# Altium integrated library ST Microcontroller 8-Bit.IntLib: 1326 symbols (part 2 of 45)
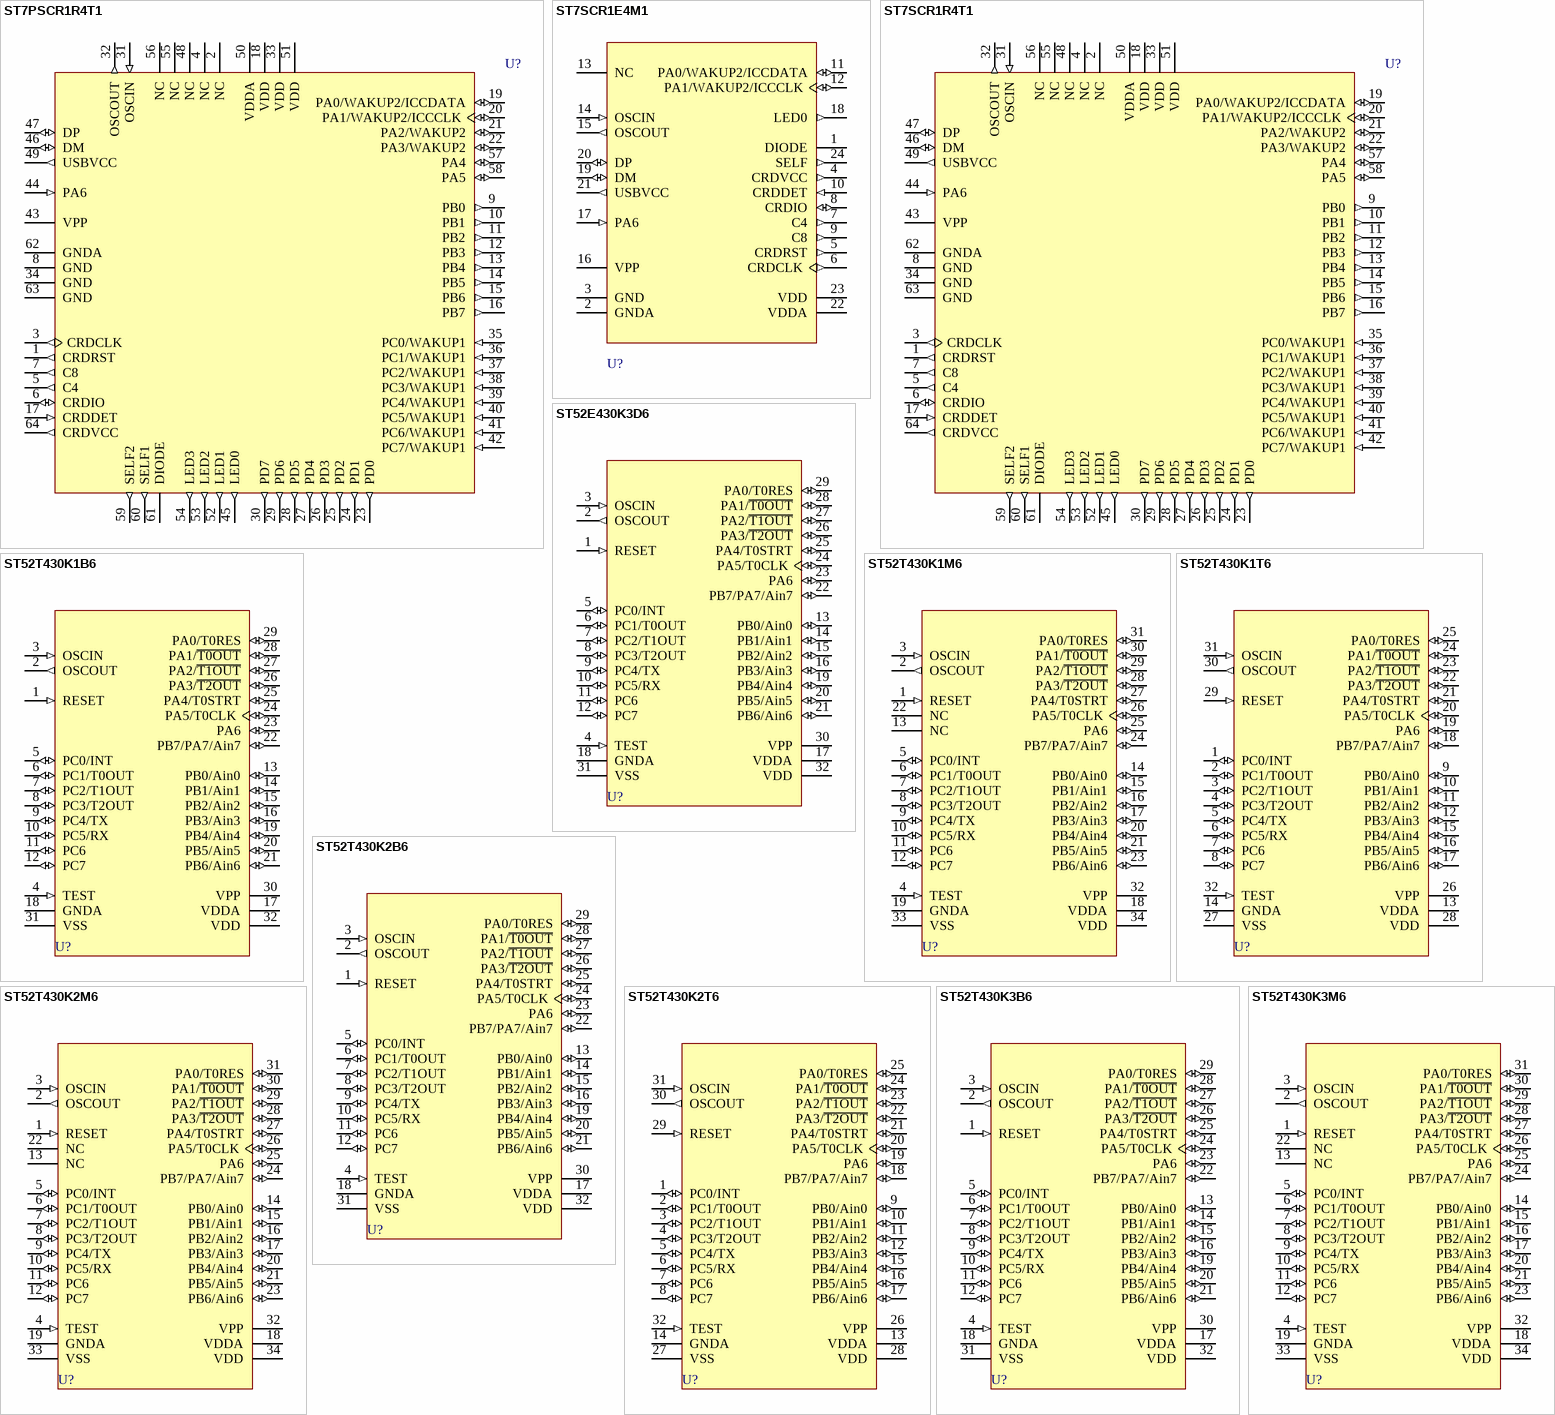
[diagram p168: symbols ST7PSCR1R4T1 to ST52T430K3M6]

## ST52T430K2T6
designator U?
8-Bit OTP Intelligent Controller Unit (ICU) with Three Timer/PWM, ADC and SCI, 32-Pin TQFP; Published: 26-May-2004; LatestRevisionDate: 13-Apr-2006; LatestRevisionNote: IPC-7351 Footprint Added.; DatasheetVersion: rev1.9, May-2003; PackageVersion: Oct-1997; PackageReference: TQFP32; Publisher: Altium Limited; PackageDescription: 32-Pin Thin Quad Flat Pack 0.8 mm Pitch; ComponentLink1Description: Manufacturer Link; ComponentLink1URL: http://www.st.com/
footprint TQFP32_N (Thin QFP, 32-Leads, Body 7x7mm, Pitch 0.8mm, IPC Medium Density)
footprint TQFP32_L (Thin QFP, 32-Leads, Body 7x7mm, Pitch 0.8mm, IPC High Density)
footprint TQFP32_M (Thin QFP, 32-Leads, Body 7x7mm, Pitch 0.8mm, IPC Low Density)
3D model ST52T430-TQFP32 (32-Pin Thin Quad Flat Pack 0.8 mm Pitch)
pins: 1 PC0/INT (io), 2 PC1/T0OUT (io), 3 PC2/T1OUT (io), 4 PC3/T2OUT (io), 5 PC4/TX (io), 6 PC5/RX (io), 7 PC6 (io), 8 PC7 (io), 9 PB0/Ain0 (io), 10 PB1/Ain1 (io), 11 PB2/Ain2 (io), 12 PB3/Ain3 (io), 13 VDDA (power), 14 GNDA (power), 15 PB4/Ain4 (io), 16 PB5/Ain5 (io), 17 PB6/Ain6 (io), 18 PB7/PA7/Ain7 (io), 19 PA6 (io), 20 PA5/T0CLK (io), 21 PA4/T0STRT (io), 22 PA3/~{T2OUT} (io), 23 PA2/~{T1OUT} (io), 24 PA1/~{T0OUT} (io), 25 PA0/T0RES (io), 26 VPP (power), 27 VSS (power), 28 VDD (power), 29 RESET (in), 30 OSCOUT (out), 31 OSCIN (in), 32 TEST (in)

## ST52T430K3B6
designator U?
8-Bit OTP Intelligent Controller Unit (ICU) with Three Timer/PWM, ADC and SCI, 32-Pin PSDIP; Published: 26-May-2004; LatestRevisionDate: 06-Jun-2005; LatestRevisionNote: Stylized 3D Model Added.; DatasheetVersion: rev1.9, May-2003; PackageVersion: rev1.7, Oct-2001; PackageReference: PSDIP32; Publisher: Altium Limited; PackageDescription: DIP, Plastic Shrink; 32 Leads; Row Spacing 10.16 mm; Pitch 1.78 mm; ComponentLink1Description: Manufacturer Link; ComponentLink1URL: http://www.st.com/
footprint PSDIP32 (DIP, Plastic Shrink; 32 Leads; Row Spacing 10.16 mm; Pitch 1.78 mm)
3D model PSDIP32 (DIP, Plastic Shrink; 32 Leads; Row Spacing 10.16 mm; Pitch 1.78 mm)
pins: 1 RESET (in), 2 OSCOUT (out), 3 OSCIN (in), 4 TEST (in), 5 PC0/INT (io), 6 PC1/T0OUT (io), 7 PC2/T1OUT (io), 8 PC3/T2OUT (io), 9 PC4/TX (io), 10 PC5/RX (io), 11 PC6 (io), 12 PC7 (io), 13 PB0/Ain0 (io), 14 PB1/Ain1 (io), 15 PB2/Ain2 (io), 16 PB3/Ain3 (io), 17 VDDA (power), 18 GNDA (power), 19 PB4/Ain4 (io), 20 PB5/Ain5 (io), 21 PB6/Ain6 (io), 22 PB7/PA7/Ain7 (io), 23 PA6 (io), 24 PA5/T0CLK (io), 25 PA4/T0STRT (io), 26 PA3/~{T2OUT} (io), 27 PA2/~{T1OUT} (io), 28 PA1/~{T0OUT} (io), 29 PA0/T0RES (io), 30 VPP (power), 31 VSS (power), 32 VDD (power)

## ST52T430K3M6
designator U?
8-Bit OTP Intelligent Controller Unit (ICU) with Three Timer/PWM, ADC and SCI, 34-Pin SSO; Published: 26-May-2004; LatestRevisionDate: 13-Apr-2006; LatestRevisionNote: IPC-7351 Footprint Added.; DatasheetVersion: rev1.9, May-2003; PackageVersion: rev1.7, Oct-2001; PackageReference: SO34S; Publisher: Altium Limited; PackageDescription: 34-Pin Small Outline Package 1.02 mm Pitch; ComponentLink1Description: Manufacturer Link; ComponentLink1URL: http://www.st.com/
footprint SO34S_N (SOP, 34-Leads, Body 17.9x7.51mm, Pitch 1.02mm, IPC Medium Density)
footprint SO34S_L (SOP, 34-Leads, Body 17.9x7.51mm, Pitch 1.02mm, IPC High Density)
footprint SO34S_M (SOP, 34-Leads, Body 17.9x7.51mm, Pitch 1.02mm, IPC Low Density)
3D model SO34S (34-Pin Small Outline Package 1.02 mm Pitch)
pins: 1 RESET (in), 2 OSCOUT (out), 3 OSCIN (in), 4 TEST (in), 5 PC0/INT (io), 6 PC1/T0OUT (io), 7 PC2/T1OUT (io), 8 PC3/T2OUT (io), 9 PC4/TX (io), 10 PC5/RX (io), 11 PC6 (io), 12 PC7 (io), 13 NC, 14 PB0/Ain0 (io), 15 PB1/Ain1 (io), 16 PB2/Ain2 (io), 17 PB3/Ain3 (io), 18 VDDA (power), 19 GNDA (power), 20 PB4/Ain4 (io), 21 PB5/Ain5 (io), 22 NC, 23 PB6/Ain6 (io), 24 PB7/PA7/Ain7 (io), 25 PA6 (io), 26 PA5/T0CLK (io), 27 PA4/T0STRT (io), 28 PA3/~{T2OUT} (io), 29 PA2/~{T1OUT} (io), 30 PA1/~{T0OUT} (io), 31 PA0/T0RES (io), 32 VPP (power), 33 VSS (power), 34 VDD (power)

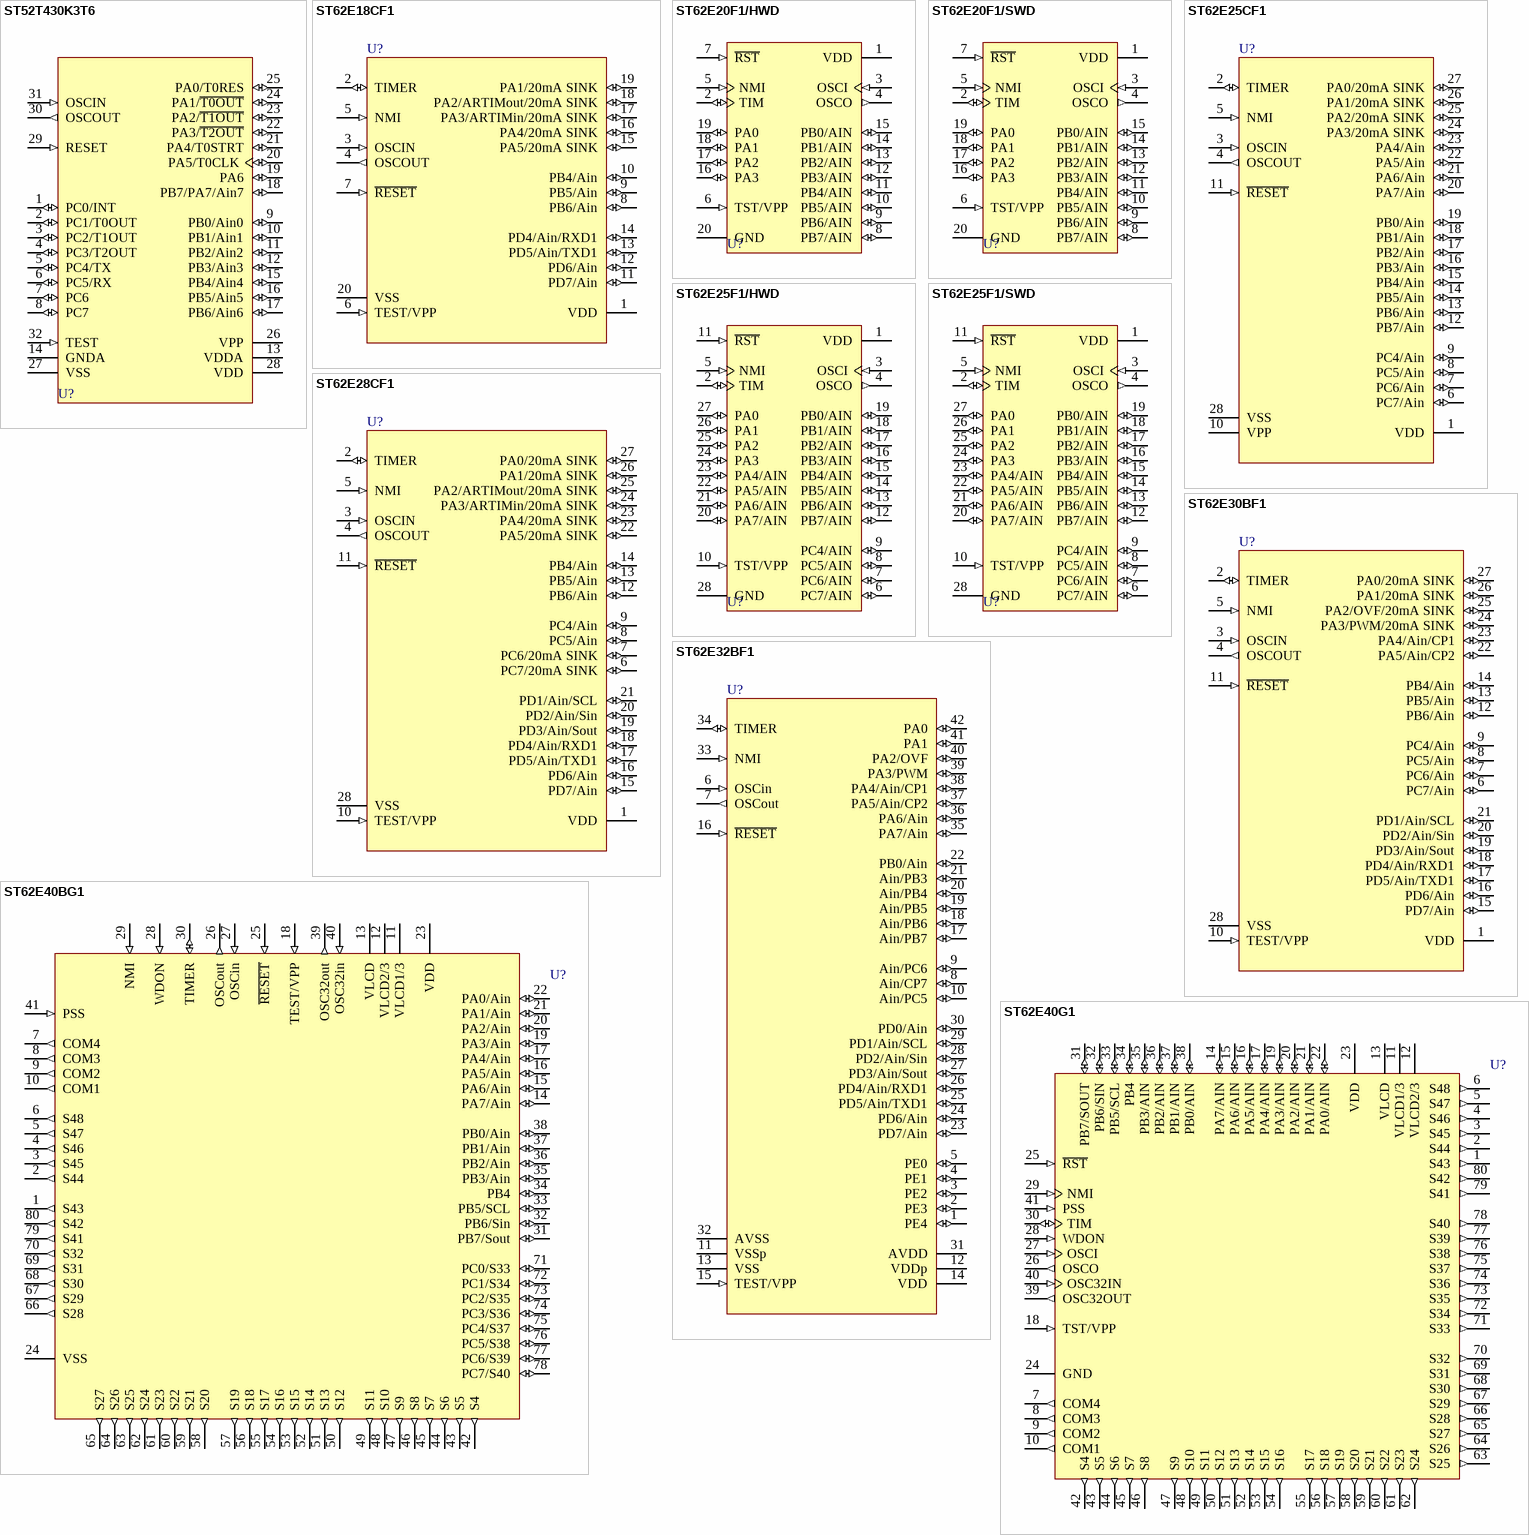
[diagram p3: symbols ST52T430K3T6 to ST62E40G1]

## ST52T430K3T6
designator U?
8-Bit OTP Intelligent Controller Unit (ICU) with Three Timer/PWM, ADC and SCI, 32-Pin TQFP; Published: 26-May-2004; LatestRevisionDate: 13-Apr-2006; LatestRevisionNote: IPC-7351 Footprint Added.; DatasheetVersion: rev1.9, May-2003; PackageVersion: Oct-1997; PackageReference: TQFP32; Publisher: Altium Limited; PackageDescription: 32-Pin Thin Quad Flat Pack 0.8 mm Pitch; ComponentLink1Description: Manufacturer Link; ComponentLink1URL: http://www.st.com/
footprint TQFP32_N (Thin QFP, 32-Leads, Body 7x7mm, Pitch 0.8mm, IPC Medium Density)
footprint TQFP32_L (Thin QFP, 32-Leads, Body 7x7mm, Pitch 0.8mm, IPC High Density)
footprint TQFP32_M (Thin QFP, 32-Leads, Body 7x7mm, Pitch 0.8mm, IPC Low Density)
3D model ST52T430-TQFP32 (32-Pin Thin Quad Flat Pack 0.8 mm Pitch)
pins: 1 PC0/INT (io), 2 PC1/T0OUT (io), 3 PC2/T1OUT (io), 4 PC3/T2OUT (io), 5 PC4/TX (io), 6 PC5/RX (io), 7 PC6 (io), 8 PC7 (io), 9 PB0/Ain0 (io), 10 PB1/Ain1 (io), 11 PB2/Ain2 (io), 12 PB3/Ain3 (io), 13 VDDA (power), 14 GNDA (power), 15 PB4/Ain4 (io), 16 PB5/Ain5 (io), 17 PB6/Ain6 (io), 18 PB7/PA7/Ain7 (io), 19 PA6 (io), 20 PA5/T0CLK (io), 21 PA4/T0STRT (io), 22 PA3/~{T2OUT} (io), 23 PA2/~{T1OUT} (io), 24 PA1/~{T0OUT} (io), 25 PA0/T0RES (io), 26 VPP (power), 27 VSS (power), 28 VDD (power), 29 RESET (in), 30 OSCOUT (out), 31 OSCIN (in), 32 TEST (in)

## ST62E18CF1
designator U?
8-Bit EPROM MCU with A/D Converter, Auto-Reload Timer, UART, OSG, Safe Reset, 20-Pin CDIP, Standard; Published: 26-May-2004; LatestRevisionDate: 06-Jun-2005; LatestRevisionNote: Stylized 3D Model Added.; DatasheetVersion: rev2.6, Jul-2001; PackageVersion: Oct-2003; PackageReference: CDIP20W; Publisher: Altium Limited; PackageDescription: DIP; 20 Leads; Row Spacing 7.62 mm; Pitch 2.54 mm; Code_JEDEC: MS-015-AE; ComponentLink1Description: Manufacturer Link; ComponentLink1URL: http://www.st.com/; ComponentLink2Description: Datasheet; ComponentLink2URL: http://www.st.com/stonline/products/literature/ds/5268/st6218c.pdf
footprint CDIP20W (DIP; 20 Leads; Row Spacing 7.62 mm; Pitch 2.54 mm)
3D model DIP20 (DIP; 20 Leads; Row Spacing 7.62 mm; Pitch 2.54 mm)
pins: 1 VDD (power), 2 TIMER (io), 3 OSCIN (in), 4 OSCOUT (out), 5 NMI (in), 6 TEST/VPP (in), 7 ~{RESET} (in), 8 PB6/Ain (io), 9 PB5/Ain (io), 10 PB4/Ain (io), 11 PD7/Ain (io), 12 PD6/Ain (io), 13 PD5/Ain/TXD1 (io), 14 PD4/Ain/RXD1 (io), 15 PA5/20mA SINK (io), 16 PA4/20mA SINK (io), 17 PA3/ARTIMin/20mA SINK (io), 18 PA2/ARTIMout/20mA SINK (io), 19 PA1/20mA SINK (io), 20 VSS (power)

## ST62E20F1/HWD
designator U?
8-Bit EPROM  MCU with A/D Converter; Published: 24-Aug-2001; LatestRevisionDate: 06-Jun-2005; LatestRevisionNote: Stylized 3D Model Added.; DatasheetVersion: Oct-1996; PackageVersion: Oct-2003; PackageReference: CDIP20W; Publisher: Altium Limited; PackageDescription: DIP; 20 Leads; Row Spacing 7.62 mm; Pitch 2.54 mm; Code_JEDEC: MS-015-AE; ComponentLink1Description: Manufacturer Link; ComponentLink1URL: http://www.st.com/
footprint CDIP20W (DIP; 20 Leads; Row Spacing 7.62 mm; Pitch 2.54 mm)
3D model DIP20 (DIP; 20 Leads; Row Spacing 7.62 mm; Pitch 2.54 mm)
pins: 1 VDD (power), 2 TIM (io), 3 OSCI (in), 4 OSCO (out), 5 NMI (in), 6 TST/VPP (in), 7 ~{RST} (in), 8 PB7/AIN (io), 9 PB6/AIN (io), 10 PB5/AIN (io), 11 PB4/AIN (io), 12 PB3/AIN (io), 13 PB2/AIN (io), 14 PB1/AIN (io), 15 PB0/AIN (io), 16 PA3 (io), 17 PA2 (io), 18 PA1 (io), 19 PA0 (io), 20 GND (power)

## ST62E20F1/SWD
designator U?
8-Bit EPROM  MCU with A/D Converter; Published: 24-Aug-2001; LatestRevisionDate: 06-Jun-2005; LatestRevisionNote: Stylized 3D Model Added.; DatasheetVersion: Oct-1996; PackageVersion: Oct-2003; PackageReference: CDIP20W; Publisher: Altium Limited; PackageDescription: DIP; 20 Leads; Row Spacing 7.62 mm; Pitch 2.54 mm; Code_JEDEC: MS-015-AE; ComponentLink1Description: Manufacturer Link; ComponentLink1URL: http://www.st.com/
footprint CDIP20W (DIP; 20 Leads; Row Spacing 7.62 mm; Pitch 2.54 mm)
3D model DIP20 (DIP; 20 Leads; Row Spacing 7.62 mm; Pitch 2.54 mm)
pins: 1 VDD (power), 2 TIM (io), 3 OSCI (in), 4 OSCO (out), 5 NMI (in), 6 TST/VPP (in), 7 ~{RST} (in), 8 PB7/AIN (io), 9 PB6/AIN (io), 10 PB5/AIN (io), 11 PB4/AIN (io), 12 PB3/AIN (io), 13 PB2/AIN (io), 14 PB1/AIN (io), 15 PB0/AIN (io), 16 PA3 (io), 17 PA2 (io), 18 PA1 (io), 19 PA0 (io), 20 GND (power)

## ST62E25CF1
designator U?
8-Bit EPROM MCU with A/D Converter, Two Timers, Oscillator Safeguard and Safe Reset, 28-Pin CDIP, Standard; Published: 26-May-2004; LatestRevisionDate: 06-Jun-2005; LatestRevisionNote: Stylized 3D Model Added.; DatasheetVersion: rev3.3, Oct-2003; PackageVersion: Oct-2003; PackageReference: CDIP28W; Publisher: Altium Limited; PackageDescription: DIP, Ceramic, Side-Brazed; 28 Leads; Row Spacing 15.24 mm; Pitch 2.54 mm; ComponentLink1Description: Manufacturer Link; ComponentLink1URL: http://www.st.com/; ComponentLink2Description: Datasheet; ComponentLink2URL: http://www.st.com/stonline/products/literature/ds/5266/st6225c.pdf
footprint CDIP28W (DIP, Ceramic, Side-Brazed; 28 Leads; Row Spacing 15.24 mm; Pitch 2.54 mm)
3D model CDIP28W (DIP, Ceramic, Side-Brazed; 28 Leads; Row Spacing 15.24 mm; Pitch 2.54 mm)
pins: 1 VDD (power), 2 TIMER (io), 3 OSCIN (in), 4 OSCOUT (out), 5 NMI (in), 6 PC7/Ain (io), 7 PC6/Ain (io), 8 PC5/Ain (io), 9 PC4/Ain (io), 10 VPP (power), 11 ~{RESET} (in), 12 PB7/Ain (io), 13 PB6/Ain (io), 14 PB5/Ain (io), 15 PB4/Ain (io), 16 PB3/Ain (io), 17 PB2/Ain (io), 18 PB1/Ain (io), 19 PB0/Ain (io), 20 PA7/Ain (io), 21 PA6/Ain (io), 22 PA5/Ain (io), 23 PA4/Ain (io), 24 PA3/20mA SINK (io), 25 PA2/20mA SINK (io), 26 PA1/20mA SINK (io), 27 PA0/20mA SINK (io), 28 VSS (power)

## ST62E25F1/HWD
designator U?
8-Bit EPROM  MCU with A/D Converter; Published: 24-Aug-2001; LatestRevisionDate: 06-Jun-2005; LatestRevisionNote: Stylized 3D Model Added.; DatasheetVersion: Oct-1996; PackageVersion: Oct-2003; PackageReference: CDIP28W; Publisher: Altium Limited; PackageDescription: DIP, Ceramic, Side-Brazed; 28 Leads; Row Spacing 15.24 mm; Pitch 2.54 mm; ComponentLink1Description: Manufacturer Link; ComponentLink1URL: http://www.st.com/
footprint CDIP28W (DIP, Ceramic, Side-Brazed; 28 Leads; Row Spacing 15.24 mm; Pitch 2.54 mm)
3D model CDIP28W (DIP, Ceramic, Side-Brazed; 28 Leads; Row Spacing 15.24 mm; Pitch 2.54 mm)
pins: 1 VDD (power), 2 TIM (io), 3 OSCI (in), 4 OSCO (out), 5 NMI (in), 6 PC7/AIN (io), 7 PC6/AIN (io), 8 PC5/AIN (io), 9 PC4/AIN (io), 10 TST/VPP (in), 11 ~{RST} (in), 12 PB7/AIN (io), 13 PB6/AIN (io), 14 PB5/AIN (io), 15 PB4/AIN (io), 16 PB3/AIN (io), 17 PB2/AIN (io), 18 PB1/AIN (io), 19 PB0/AIN (io), 20 PA7/AIN (io), 21 PA6/AIN (io), 22 PA5/AIN (io), 23 PA4/AIN (io), 24 PA3 (io), 25 PA2 (io), 26 PA1 (io), 27 PA0 (io), 28 GND (power)

## ST62E25F1/SWD
designator U?
8-Bit EPROM  MCU with A/D Converter; Published: 24-Aug-2001; LatestRevisionDate: 06-Jun-2005; LatestRevisionNote: Stylized 3D Model Added.; DatasheetVersion: Oct-1996; PackageVersion: Oct-2003; PackageReference: CDIP28W; Publisher: Altium Limited; PackageDescription: DIP, Ceramic, Side-Brazed; 28 Leads; Row Spacing 15.24 mm; Pitch 2.54 mm; ComponentLink1Description: Manufacturer Link; ComponentLink1URL: http://www.st.com/
footprint CDIP28W (DIP, Ceramic, Side-Brazed; 28 Leads; Row Spacing 15.24 mm; Pitch 2.54 mm)
3D model CDIP28W (DIP, Ceramic, Side-Brazed; 28 Leads; Row Spacing 15.24 mm; Pitch 2.54 mm)
pins: 1 VDD (power), 2 TIM (io), 3 OSCI (in), 4 OSCO (out), 5 NMI (in), 6 PC7/AIN (io), 7 PC6/AIN (io), 8 PC5/AIN (io), 9 PC4/AIN (io), 10 TST/VPP (in), 11 ~{RST} (in), 12 PB7/AIN (io), 13 PB6/AIN (io), 14 PB5/AIN (io), 15 PB4/AIN (io), 16 PB3/AIN (io), 17 PB2/AIN (io), 18 PB1/AIN (io), 19 PB0/AIN (io), 20 PA7/AIN (io), 21 PA6/AIN (io), 22 PA5/AIN (io), 23 PA4/AIN (io), 24 PA3 (io), 25 PA2 (io), 26 PA1 (io), 27 PA0 (io), 28 GND (power)

## ST62E28CF1
designator U?
8-Bit EPROM MCU with A/D Converter, Auto-Reload Timer, UART, OSG, Safe Reset , 28-Pin CDIP, Standard; Published: 26-May-2004; LatestRevisionDate: 06-Jun-2005; LatestRevisionNote: Stylized 3D Model Added.; DatasheetVersion: rev2.9, Jul-2001; PackageVersion: Oct-2003; PackageReference: CDIP28W; Publisher: Altium Limited; PackageDescription: DIP, Ceramic, Side-Brazed; 28 Leads; Row Spacing 15.24 mm; Pitch 2.54 mm; ComponentLink1Description: Manufacturer Link; ComponentLink1URL: http://www.st.com/; ComponentLink2Description: Datasheet; ComponentLink2URL: http://www.st.com/stonline/products/literature/ds/5269/st6228c.pdf
footprint CDIP28W (DIP, Ceramic, Side-Brazed; 28 Leads; Row Spacing 15.24 mm; Pitch 2.54 mm)
3D model CDIP28W (DIP, Ceramic, Side-Brazed; 28 Leads; Row Spacing 15.24 mm; Pitch 2.54 mm)
pins: 1 VDD (power), 2 TIMER (io), 3 OSCIN (in), 4 OSCOUT (out), 5 NMI (in), 6 PC7/20mA SINK (io), 7 PC6/20mA SINK (io), 8 PC5/Ain (io), 9 PC4/Ain (io), 10 TEST/VPP (in), 11 ~{RESET} (in), 12 PB6/Ain (io), 13 PB5/Ain (io), 14 PB4/Ain (io), 15 PD7/Ain (io), 16 PD6/Ain (io), 17 PD5/Ain/TXD1 (io), 18 PD4/Ain/RXD1 (io), 19 PD3/Ain/Sout (io), 20 PD2/Ain/Sin (io), 21 PD1/Ain/SCL (io), 22 PA5/20mA SINK (io), 23 PA4/20mA SINK (io), 24 PA3/ARTIMin/20mA SINK (io), 25 PA2/ARTIMout/20mA SINK (io), 26 PA1/20mA SINK (io), 27 PA0/20mA SINK (io), 28 VSS (power)

## ST62E30BF1
designator U?
8-Bit EPROM MCU with A/D Converter, 16-Bit Auto-Reload Timer, EEPROM, SPI and UART, 28-Pin CDIP, Standard; Published: 26-May-2004; LatestRevisionDate: 06-Jun-2005; LatestRevisionNote: Stylized 3D Model Added.; DatasheetVersion: rev2.7, Oct-2003; PackageVersion: Oct-2003; PackageReference: CDIP28W; Publisher: Altium Limited; PackageDescription: DIP, Ceramic, Side-Brazed; 28 Leads; Row Spacing 15.24 mm; Pitch 2.54 mm; ComponentLink1Description: Manufacturer Link; ComponentLink1URL: http://www.st.com/; ComponentLink2Description: Datasheet; ComponentLink2URL: http://www.st.com/stonline/products/literature/ds/4989/st6230b.pdf
footprint CDIP28W (DIP, Ceramic, Side-Brazed; 28 Leads; Row Spacing 15.24 mm; Pitch 2.54 mm)
3D model CDIP28W (DIP, Ceramic, Side-Brazed; 28 Leads; Row Spacing 15.24 mm; Pitch 2.54 mm)
pins: 1 VDD (power), 2 TIMER (io), 3 OSCIN (in), 4 OSCOUT (out), 5 NMI (in), 6 PC7/Ain (io), 7 PC6/Ain (io), 8 PC5/Ain (io), 9 PC4/Ain (io), 10 TEST/VPP (in), 11 ~{RESET} (in), 12 PB6/Ain (io), 13 PB5/Ain (io), 14 PB4/Ain (io), 15 PD7/Ain (io), 16 PD6/Ain (io), 17 PD5/Ain/TXD1 (io), 18 PD4/Ain/RXD1 (io), 19 PD3/Ain/Sout (io), 20 PD2/Ain/Sin (io), 21 PD1/Ain/SCL (io), 22 PA5/Ain/CP2 (io), 23 PA4/Ain/CP1 (io), 24 PA3/PWM/20mA SINK (io), 25 PA2/OVF/20mA SINK (io), 26 PA1/20mA SINK (io), 27 PA0/20mA SINK (io), 28 VSS (power)

## ST62E32BF1
designator U?
8-Bit EPROM MCU with A/D Converter, 16-Bit Auto-Reload Timer, EEPROM, SPI and UART, 42-Pin CDIP, Standard; Published: 26-May-2004; LatestRevisionDate: 06-Jun-2005; LatestRevisionNote: Stylized 3D Model Added.; DatasheetVersion: rev2.8, Oct-2003; PackageVersion: Rev. 1.8, May-2001; PackageReference: CDIP42SW; Publisher: Altium Limited; PackageDescription: DIP, Ceramic, Shrink; 42 Leads; Row Spacing 15.24 mm; Pitch 1.78 mm; ComponentLink1Description: Manufacturer Link; ComponentLink1URL: http://www.st.com/; ComponentLink2Description: Datasheet; ComponentLink2URL: http://www.st.com/stonline/products/literature/ds/4990/st6232b.pdf
footprint CDIP42SW (DIP, Ceramic, Shrink; 42 Leads; Row Spacing 15.24 mm; Pitch 1.78 mm)
3D model CDIP42SW (DIP, Ceramic, Shrink; 42 Leads; Row Spacing 15.24 mm; Pitch 1.78 mm)
pins: 1 PE4 (io), 2 PE3 (io), 3 PE2 (io), 4 PE1 (io), 5 PE0 (io), 6 OSCin (in), 7 OSCout (out), 8 Ain/CP7 (io), 9 Ain/PC6 (io), 10 Ain/PC5 (io), 11 VSSp (power), 12 VDDp (power), 13 VSS (power), 14 VDD (power), 15 TEST/VPP (in), 16 ~{RESET} (in), 17 Ain/PB7 (io), 18 Ain/PB6 (io), 19 Ain/PB5 (io), 20 Ain/PB4 (io), 21 Ain/PB3 (io), 22 PB0/Ain (io), 23 PD7/Ain (io), 24 PD6/Ain (io), 25 PD5/Ain/TXD1 (io), 26 PD4/Ain/RXD1 (io), 27 PD3/Ain/Sout (io), 28 PD2/Ain/Sin (io), 29 PD1/Ain/SCL (io), 30 PD0/Ain (io), 31 AVDD (power), 32 AVSS (power), 33 NMI (in), 34 TIMER (io), 35 PA7/Ain (io), 36 PA6/Ain (io), 37 PA5/Ain/CP2 (io), 38 PA4/Ain/CP1 (io), 39 PA3/PWM (io), 40 PA2/OVF (io), 41 PA1 (io), 42 PA0 (io)

## ST62E40BG1
designator U?
8-Bit EPROM MCU with LCD Driver, EEPROM and A/D Converter, 80-Pin CQFP, Standard; Note: Pins 31 to 34 can also sink 20mA for direct LED or TRIAC drive.; Published: 26-May-2004; LatestRevisionDate: 13-Apr-2006; LatestRevisionNote: IPC-7351 Footprint Added.; DatasheetVersion: rev2.7, Jul-2001; PackageVersion: rev3.3, Jan-2001; PackageReference: CQFP080; Publisher: Altium Limited; PackageDescription: 80-Pin Ceramic Quad Flat Pack Rectangular 0.8 mm Pitch; ComponentLink1Description: Manufacturer Link; ComponentLink1URL: http://www.st.com/; ComponentLink2Description: Datasheet; ComponentLink2URL: http://www.st.com/stonline/products/literature/ds/4991/st6240b.pdf
footprint CQFP080_N (QFP, 80-Leads, Body 20x14mm, Pitch 0.8mm, IPC Medium Density)
footprint CQFP080_L (QFP, 80-Leads, Body 20x14mm, Pitch 0.8mm, IPC High Density)
footprint CQFP080_M (QFP, 80-Leads, Body 20x14mm, Pitch 0.8mm, IPC Low Density)
3D model ST62E40-CQFP80 (80-Pin Ceramic Quad Flat Pack Rectangular 0.8 mm Pitch)
pins: 1 S43 (out), 2 S44 (out), 3 S45 (out), 4 S46 (out), 5 S47 (out), 6 S48 (out), 7 COM4 (out), 8 COM3 (out), 9 COM2 (out), 10 COM1 (out), 11 VLCD1/3 (power), 12 VLCD2/3 (power), 13 VLCD (power), 14 PA7/Ain (io), 15 PA6/Ain (io), 16 PA5/Ain (io), 17 PA4/Ain (io), 18 TEST/VPP (in), 19 PA3/Ain (io), 20 PA2/Ain (io), 21 PA1/Ain (io), 22 PA0/Ain (io), 23 VDD (power), 24 VSS (power), 25 ~{RESET} (in), 26 OSCout (out), 27 OSCin (in), 28 WDON (in), 29 NMI (in), 30 TIMER (io), 31 PB7/Sout (io), 32 PB6/Sin (io), 33 PB5/SCL (io), 34 PB4 (io), 35 PB3/Ain (io), 36 PB2/Ain (io), 37 PB1/Ain (io), 38 PB0/Ain (io), 39 OSC32out (out), 40 OSC32in (in), 41 PSS (in), 42 S4 (out), 43 S5 (out), 44 S6 (out), 45 S7 (out), 46 S8 (out), 47 S9 (out), 48 S10 (out), 49 S11 (out), 50 S12 (out), 51 S13 (out), 52 S14 (out), 53 S15 (out), 54 S16 (out), 55 S17 (out), 56 S18 (out), 57 S19 (out), 58 S20 (out), 59 S21 (out), 60 S22 (out), 61 S23 (out), 62 S24 (out), 63 S25 (out), 64 S26 (out), 65 S27 (out), 66 S28 (out), 67 S29 (out), 68 S30 (out), 69 S31 (out), 70 S32 (out), 71 PC0/S33 (io), 72 PC1/S34 (io), 73 PC2/S35 (io), 74 PC3/S36 (io), 75 PC4/S37 (io), 76 PC5/S38 (io), 77 PC6/S39 (io), 78 PC7/S40 (io), 79 S41 (out), 80 S42 (out)

## ST62E40G1
designator U?
8-Bit OPT/EPROM HCMOS MCU with LCD Driver, EEPROM and A/D Converter; Published: 24-Aug-2001; LatestRevisionDate: 13-Apr-2006; LatestRevisionNote: IPC-7351 Footprint Added.; DatasheetVersion: Apr-1995; PackageVersion: rev3.3, Jan-2001; PackageReference: CQFP080; Publisher: Altium Limited; PackageDescription: 80-Pin Ceramic Quad Flat Pack Rectangular 0.8 mm Pitch; ComponentLink1Description: Manufacturer Link; ComponentLink1URL: http://www.st.com/
footprint CQFP080_N (QFP, 80-Leads, Body 20x14mm, Pitch 0.8mm, IPC Medium Density)
footprint CQFP080_L (QFP, 80-Leads, Body 20x14mm, Pitch 0.8mm, IPC High Density)
footprint CQFP080_M (QFP, 80-Leads, Body 20x14mm, Pitch 0.8mm, IPC Low Density)
3D model ST62E40-CQFP80 (80-Pin Ceramic Quad Flat Pack Rectangular 0.8 mm Pitch)
pins: 1 S43 (out), 2 S44 (out), 3 S45 (out), 4 S46 (out), 5 S47 (out), 6 S48 (out), 7 COM4 (out), 8 COM3 (out), 9 COM2 (out), 10 COM1 (out), 11 VLCD1/3, 12 VLCD2/3, 13 VLCD, 14 PA7/AIN (io), 15 PA6/AIN (io), 16 PA5/AIN (io), 17 PA4/AIN (io), 18 TST/VPP (in), 19 PA3/AIN (io), 20 PA2/AIN (io), 21 PA1/AIN (io), 22 PA0/AIN (io), 23 VDD (power), 24 GND (power), 25 ~{RST} (in), 26 OSCO (out), 27 OSCI (in), 28 WDON (in), 29 NMI (in), 30 TIM (io), 31 PB7/SOUT (io), 32 PB6/SIN (io), 33 PB5/SCL (io), 34 PB4 (io), 35 PB3/AIN (io), 36 PB2/AIN (io), 37 PB1/AIN (io), 38 PB0/AIN (io), 39 OSC32OUT (out), 40 OSC32IN (in), 41 PSS (in), 42 S4 (out), 43 S5 (out), 44 S6 (out), 45 S7 (out), 46 S8 (out), 47 S9 (out), 48 S10 (out), 49 S11 (out), 50 S12 (out), 51 S13 (out), 52 S14 (out), 53 S15 (out), 54 S16 (out), 55 S17 (out), 56 S18 (out), 57 S19 (out), 58 S20 (out), 59 S21 (out), 60 S22 (out), 61 S23 (out), 62 S24 (out), 63 S25 (out), 64 S26 (out), 65 S27 (out), 66 S28 (out), 67 S29 (out), 68 S30 (out), 69 S31 (out), 70 S32 (out), 71 S33 (out), 72 S34 (out), 73 S35 (out), 74 S36 (out), 75 S37 (out), 76 S38 (out), 77 S39 (out), 78 S40 (out), 79 S41 (out), 80 S42 (out)

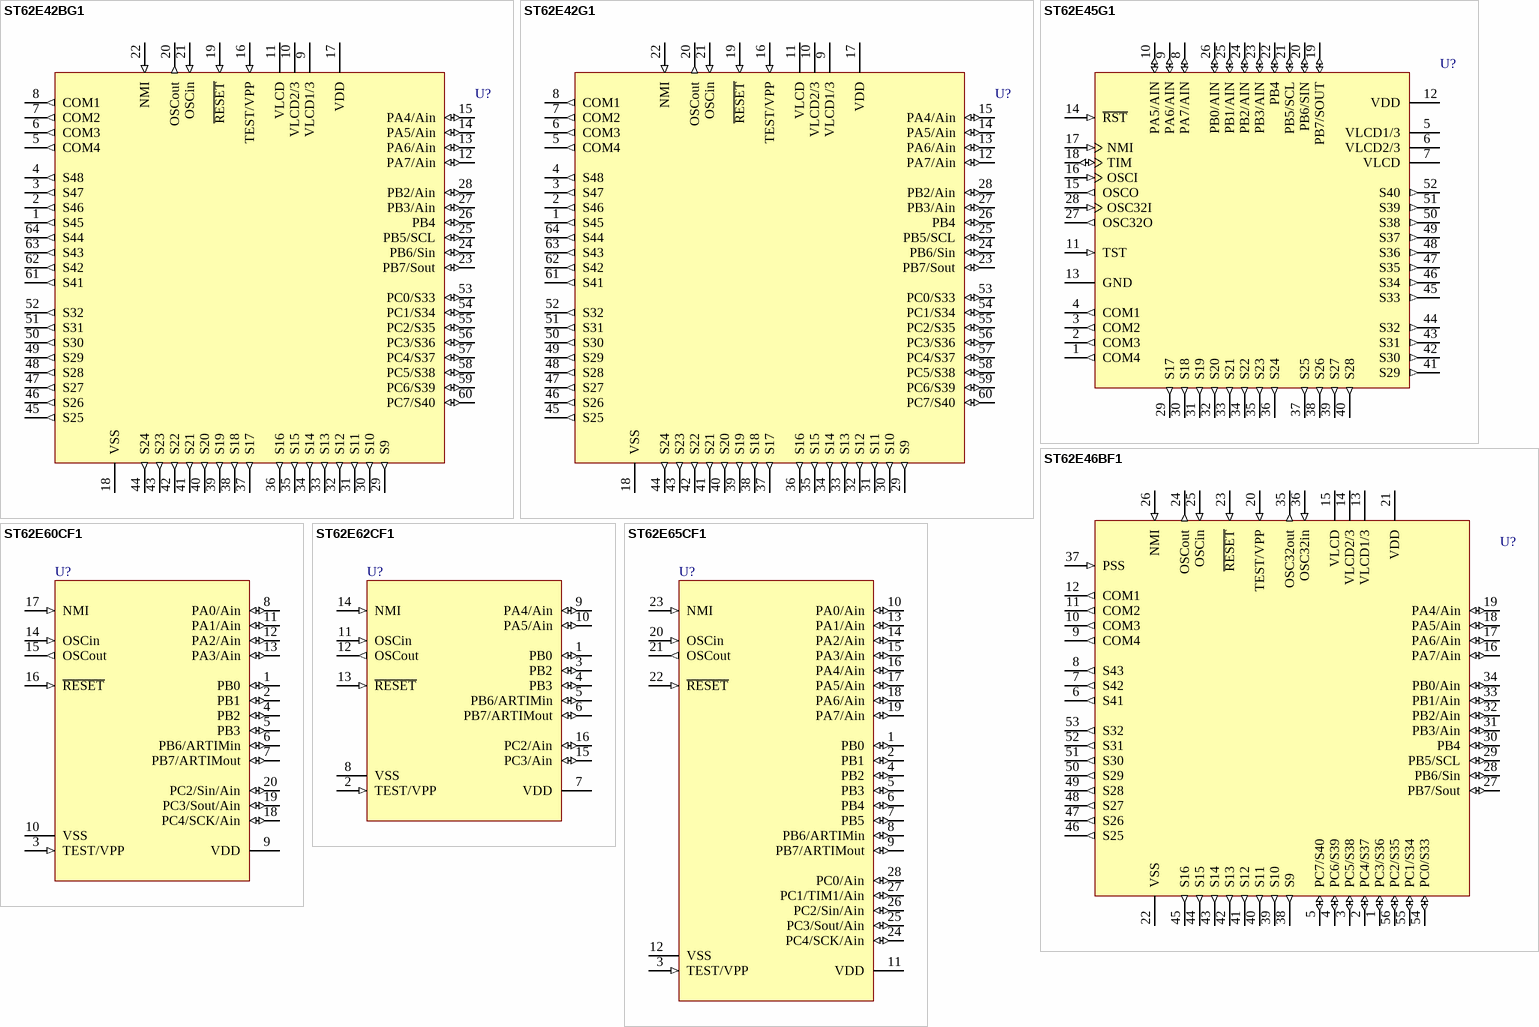
[diagram p4: symbols ST62E42BG1 to ST62E65CF1]

## ST62E42BG1
designator U?
8-Bit EPROM MCU with LCD Driver, EEPROM and A/D Converter, 64-Pin CQFP, Standard; Note: Pins 23 to 26 can also sink 20mA for direct LED or TRIAC drive.; Published: 26-May-2004; LatestRevisionDate: 13-Apr-2006; LatestRevisionNote: IPC-7351 Footprint Added.; DatasheetVersion: rev2.7, Jul-2001; PackageVersion: rev2.4, Jan-2002; PackageReference: CQFP064W; Publisher: Altium Limited; PackageDescription: 64-Pin Ceramic Quad Flat Pack 0.8 mm Pitch; Code_IPC: QFP80P1720X1720-64; ComponentLink1Description: Manufacturer Link; ComponentLink1URL: http://www.st.com/; ComponentLink2Description: Datasheet; ComponentLink2URL: http://www.st.com/stonline/products/literature/ds/4992/st6242b.pdf
footprint CQFP064W_N (QFP, 64-Leads, Body 14x14mm, Pitch 0.8mm, IPC Medium Density)
footprint CQFP064W_L (QFP, 64-Leads, Body 14x14mm, Pitch 0.8mm, IPC High Density)
footprint CQFP064W_M (QFP, 64-Leads, Body 14x14mm, Pitch 0.8mm, IPC Low Density)
3D model ST62E42B-CQFP64 (64-Pin Ceramic Quad Flat Pack 0.8 mm Pitch)
pins: 1 S45 (out), 2 S46 (out), 3 S47 (out), 4 S48 (out), 5 COM4 (out), 6 COM3 (out), 7 COM2 (out), 8 COM1 (out), 9 VLCD1/3 (power), 10 VLCD2/3 (power), 11 VLCD (power), 12 PA7/Ain (io), 13 PA6/Ain (io), 14 PA5/Ain (io), 15 PA4/Ain (io), 16 TEST/VPP (in), 17 VDD (power), 18 VSS (power), 19 ~{RESET} (in), 20 OSCout (out), 21 OSCin (in), 22 NMI (in), 23 PB7/Sout (io), 24 PB6/Sin (io), 25 PB5/SCL (io), 26 PB4 (io), 27 PB3/Ain (io), 28 PB2/Ain (io), 29 S9 (out), 30 S10 (out), 31 S11 (out), 32 S12 (out), 33 S13 (out), 34 S14 (out), 35 S15 (out), 36 S16 (out), 37 S17 (out), 38 S18 (out), 39 S19 (out), 40 S20 (out), 41 S21 (out), 42 S22 (out), 43 S23 (out), 44 S24 (out), 45 S25 (out), 46 S26 (out), 47 S27 (out), 48 S28 (out), 49 S29 (out), 50 S30 (out), 51 S31 (out), 52 S32 (out), 53 PC0/S33 (io), 54 PC1/S34 (io), 55 PC2/S35 (io), 56 PC3/S36 (io), 57 PC4/S37 (io), 58 PC5/S38 (io), 59 PC6/S39 (io), 60 PC7/S40 (io), 61 S41 (out), 62 S42 (out), 63 S43 (out), 64 S44 (out)

## ST62E42G1
designator U?
8-Bit EPROM HCMOS MCU with LCD Driver and A/D Converter; Published: 24-Aug-2001; LatestRevisionDate: 13-Apr-2006; LatestRevisionNote: IPC-7351 Footprint Added.; DatasheetVersion: Apr-1995; PackageVersion: rev2.4, Jan-2002; PackageReference: CQFP064W; Publisher: Altium Limited; PackageDescription: 64-Pin Ceramic Quad Flat Pack 0.8 mm Pitch; Code_IPC: QFP80P1720X1720-64; ComponentLink1Description: Manufacturer Link; ComponentLink1URL: http://www.st.com/
footprint CQFP064W_N (QFP, 64-Leads, Body 14x14mm, Pitch 0.8mm, IPC Medium Density)
footprint CQFP064W_L (QFP, 64-Leads, Body 14x14mm, Pitch 0.8mm, IPC High Density)
footprint CQFP064W_M (QFP, 64-Leads, Body 14x14mm, Pitch 0.8mm, IPC Low Density)
3D model ST62E42-CQFP64 (64-Pin Ceramic Quad Flat Pack 0.8 mm Pitch)
pins: 1 S45 (out), 2 S46 (out), 3 S47 (out), 4 S48 (out), 5 COM4 (out), 6 COM3 (out), 7 COM2 (out), 8 COM1 (out), 9 VLCD1/3 (power), 10 VLCD2/3 (power), 11 VLCD (power), 12 PA7/Ain (io), 13 PA6/Ain (io), 14 PA5/Ain (io), 15 PA4/Ain (io), 16 TEST/VPP (in), 17 VDD (power), 18 VSS (power), 19 ~{RESET} (in), 20 OSCout (out), 21 OSCin (in), 22 NMI (in), 23 PB7/Sout (io), 24 PB6/Sin (io), 25 PB5/SCL (io), 26 PB4 (io), 27 PB3/Ain (io), 28 PB2/Ain (io), 29 S9 (out), 30 S10 (out), 31 S11 (out), 32 S12 (out), 33 S13 (out), 34 S14 (out), 35 S15 (out), 36 S16 (out), 37 S17 (out), 38 S18 (out), 39 S19 (out), 40 S20 (out), 41 S21 (out), 42 S22 (out), 43 S23 (out), 44 S24 (out), 45 S25 (out), 46 S26 (out), 47 S27 (out), 48 S28 (out), 49 S29 (out), 50 S30 (out), 51 S31 (out), 52 S32 (out), 53 PC0/S33 (io), 54 PC1/S34 (io), 55 PC2/S35 (io), 56 PC3/S36 (io), 57 PC4/S37 (io), 58 PC5/S38 (io), 59 PC6/S39 (io), 60 PC7/S40 (io), 61 S41 (out), 62 S42 (out), 63 S43 (out), 64 S44 (out)

## ST62E45G1
designator U?
8-Bit EPROM HCMOS MCU with LCD Driver, EEPROM and A/D Converter; Published: 24-Aug-2001; LatestRevisionDate: 13-Apr-2006; LatestRevisionNote: IPC-7351 Footprint Added.; DatasheetVersion: Apr-1995; PackageReference: CQFP52W; Publisher: Altium Limited; PackageDescription: 52-Pin Window Ceramic Quad Flat Pack 1 mm Pitch; ComponentLink1Description: Manufacturer Link; ComponentLink1URL: http://www.st.com/
footprint CQFP52W_N (QFP, 52-Leads, Body 14x14mm, Pitch 1mm, IPC Medium Density)
footprint CQFP52W_L (QFP, 52-Leads, Body 14x14mm, Pitch 1mm, IPC High Density)
footprint CQFP52W_M (QFP, 52-Leads, Body 14x14mm, Pitch 1mm, IPC Low Density)
3D model ST62E45-CQFP52 (52-Pin Window Ceramic Quad Flat Pack 1 mm Pitch)
pins: 1 COM4 (out), 2 COM3 (out), 3 COM2 (out), 4 COM1 (out), 5 VLCD1/3, 6 VLCD2/3, 7 VLCD, 8 PA7/AIN (io), 9 PA6/AIN (io), 10 PA5/AIN (io), 11 TST (in), 12 VDD (power), 13 GND (power), 14 ~{RST} (in), 15 OSCO (out), 16 OSCI (in), 17 NMI (in), 18 TIM (io), 19 PB7/SOUT (io), 20 PB6/SIN (io), 21 PB5/SCL (io), 22 PB4 (io), 23 PB3/AIN (io), 24 PB2/AIN (io), 25 PB1/AIN (io), 26 PB0/AIN (io), 27 OSC32O (out), 28 OSC32I (in), 29 S17 (out), 30 S18 (out), 31 S19 (out), 32 S20 (out), 33 S21 (out), 34 S22 (out), 35 S23 (out), 36 S24 (out), 37 S25 (out), 38 S26 (out), 39 S27 (out), 40 S28 (out), 41 S29 (out), 42 S30 (out), 43 S31 (out), 44 S32 (out), 45 S33 (out), 46 S34 (out), 47 S35 (out), 48 S36 (out), 49 S37 (out), 50 S38 (out), 51 S39 (out), 52 S40 (out)

## ST62E46BF1
designator U?
8-Bit EPROM MCU with LCD Driver, EEPROM and A/D Converter, 56-Pin CDIP, Standard; Note: Pins 27 to 30 can also sink 20mA for direct LED or TRIAC drive.; Published: 26-May-2004; LatestRevisionDate: 06-Jun-2005; LatestRevisionNote: Stylized 3D Model Added.; DatasheetVersion: rev2.6, Jul-2001; PackageVersion: Jan-2002; PackageReference: CDIP56SW; Publisher: Altium Limited; PackageDescription: DIP, Ceramic, Shrink; 56 Leads; Row Spacing 15.24 mm; Pitch 1.78 mm; ComponentLink1Description: Manufacturer Link; ComponentLink1URL: http://www.st.com/; ComponentLink2Description: Datasheet; ComponentLink2URL: http://www.st.com/stonline/products/literature/ds/4994/st6246b.pdf
footprint CDIP56SW (DIP, Ceramic, Shrink; 56 Leads; Row Spacing 15.24 mm; Pitch 1.78 mm)
3D model CDIP56SW (DIP, Ceramic, Shrink; 56 Leads; Row Spacing 15.24 mm; Pitch 1.78 mm)
pins: 1 PC3/S36 (io), 2 PC4/S37 (io), 3 PC5/S38 (io), 4 PC6/S39 (io), 5 PC7/S40 (io), 6 S41 (out), 7 S42 (out), 8 S43 (out), 9 COM4 (out), 10 COM3 (out), 11 COM2 (out), 12 COM1 (out), 13 VLCD1/3 (power), 14 VLCD2/3 (power), 15 VLCD (power), 16 PA7/Ain (io), 17 PA6/Ain (io), 18 PA5/Ain (io), 19 PA4/Ain (io), 20 TEST/VPP (in), 21 VDD (power), 22 VSS (power), 23 ~{RESET} (in), 24 OSCout (out), 25 OSCin (in), 26 NMI (in), 27 PB7/Sout (io), 28 PB6/Sin (io), 29 PB5/SCL (io), 30 PB4 (io), 31 PB3/Ain (io), 32 PB2/Ain (io), 33 PB1/Ain (io), 34 PB0/Ain (io), 35 OSC32out (out), 36 OSC32in (in), 37 PSS (in), 38 S9 (out), 39 S10 (out), 40 S11 (out), 41 S12 (out), 42 S13 (out), 43 S14 (out), 44 S15 (out), 45 S16 (out), 46 S25 (out), 47 S26 (out), 48 S27 (out), 49 S28 (out), 50 S29 (out), 51 S30 (out), 52 S31 (out), 53 S32 (out), 54 PC0/S33 (io), 55 PC1/S34 (io), 56 PC2/S35 (io)

## ST62E60CF1
designator U?
8-Bit EPROM MCU with A/D Converter, Safe Reset, Auto-Reload Timer, EEPROM and SPI, 20-Pin CDIP, Standard; Note: Pins 1, 2, 4 and 5 can also sink 30mA for direct LED or TRIAC drive.; Published: 26-May-2004; LatestRevisionDate: 06-Jun-2005; LatestRevisionNote: Stylized 3D Model Added.; DatasheetVersion: rev2.8, Jul-2001; PackageVersion: Oct-2003; PackageReference: CDIP20W; Publisher: Altium Limited; PackageDescription: DIP; 20 Leads; Row Spacing 7.62 mm; Pitch 2.54 mm; Code_JEDEC: MS-015-AE; ComponentLink1Description: Manufacturer Link; ComponentLink1URL: http://www.st.com/; ComponentLink2Description: Datasheet; ComponentLink2URL: http://www.st.com/stonline/products/literature/ds/6215/st6260c.pdf
footprint CDIP20W (DIP; 20 Leads; Row Spacing 7.62 mm; Pitch 2.54 mm)
3D model DIP20 (DIP; 20 Leads; Row Spacing 7.62 mm; Pitch 2.54 mm)
pins: 1 PB0 (io), 2 PB1 (io), 3 TEST/VPP (in), 4 PB2 (io), 5 PB3 (io), 6 PB6/ARTIMin (io), 7 PB7/ARTIMout (io), 8 PA0/Ain (io), 9 VDD (power), 10 VSS (power), 11 PA1/Ain (io), 12 PA2/Ain (io), 13 PA3/Ain (io), 14 OSCin (in), 15 OSCout (out), 16 ~{RESET} (in), 17 NMI (in), 18 PC4/SCK/Ain (io), 19 PC3/Sout/Ain (io), 20 PC2/Sin/Ain (io)

## ST62E62CF1
designator U?
8-Bit EPROM MCU with A/D Converter, Safe Reset, Auto-Reload Timer and EEPROM, 16-Pin CDIP, Standard; Note: Pins 3 to 5 can also sink 20mA for direct LED or TRIAC drive.; Published: 26-May-2004; LatestRevisionDate: 06-Jun-2005; LatestRevisionNote: Stylized 3D Model Added.; DatasheetVersion: rev3.0, Feb-2002; PackageVersion: Oct-2003; PackageReference: CDIP16W; Publisher: Altium Limited; PackageDescription: DIP; 16 Leads; Row Spacing 7.62 mm; Pitch 2.54 mm; ComponentLink1Description: Manufacturer Link; ComponentLink1URL: http://www.st.com/; ComponentLink2Description: Datasheet; ComponentLink2URL: http://www.st.com/stonline/products/literature/ds/6217/st6262c.pdf
footprint CDIP16W (DIP; 16 Leads; Row Spacing 7.62 mm; Pitch 2.54 mm)
3D model CDIP16W (DIP; 16 Leads; Row Spacing 7.62 mm; Pitch 2.54 mm)
pins: 1 PB0 (io), 2 TEST/VPP (in), 3 PB2 (io), 4 PB3 (io), 5 PB6/ARTIMin (io), 6 PB7/ARTIMout (io), 7 VDD (power), 8 VSS (power), 9 PA4/Ain (io), 10 PA5/Ain (io), 11 OSCin (in), 12 OSCout (out), 13 ~{RESET} (in), 14 NMI (in), 15 PC3/Ain (io), 16 PC2/Ain (io)

## ST62E65CF1
designator U?
8-Bit EPROM MCU with A/D Converter, Safe Reset, Auto-Reload Timer, EEPROM and SPI, 28-Pin CDIP, Standard; Note: Pins 1, 2 and 4-7 can also sink 30mA for direct LED or TRIAC drive.; Published: 26-May-2004; LatestRevisionDate: 06-Jun-2005; LatestRevisionNote: Stylized 3D Model Added.; DatasheetVersion: rev2.9, Jul-2001; PackageVersion: Oct-2003; PackageReference: CDIP28W; Publisher: Altium Limited; PackageDescription: DIP, Ceramic, Side-Brazed; 28 Leads; Row Spacing 15.24 mm; Pitch 2.54 mm; ComponentLink1Description: Manufacturer Link; ComponentLink1URL: http://www.st.com/; ComponentLink2Description: Datasheet; ComponentLink2URL: http://www.st.com/stonline/products/literature/ds/6220/st6265c.pdf
footprint CDIP28W (DIP, Ceramic, Side-Brazed; 28 Leads; Row Spacing 15.24 mm; Pitch 2.54 mm)
3D model CDIP28W (DIP, Ceramic, Side-Brazed; 28 Leads; Row Spacing 15.24 mm; Pitch 2.54 mm)
pins: 1 PB0 (io), 2 PB1 (io), 3 TEST/VPP (in), 4 PB2 (io), 5 PB3 (io), 6 PB4 (io), 7 PB5 (io), 8 PB6/ARTIMin (io), 9 PB7/ARTIMout (io), 10 PA0/Ain (io), 11 VDD (power), 12 VSS (power), 13 PA1/Ain (io), 14 PA2/Ain (io), 15 PA3/Ain (io), 16 PA4/Ain (io), 17 PA5/Ain (io), 18 PA6/Ain (io), 19 PA7/Ain (io), 20 OSCin (in), 21 OSCout (out), 22 ~{RESET} (in), 23 NMI (in), 24 PC4/SCK/Ain (io), 25 PC3/Sout/Ain (io), 26 PC2/Sin/Ain (io), 27 PC1/TIM1/Ain (io), 28 PC0/Ain (io)

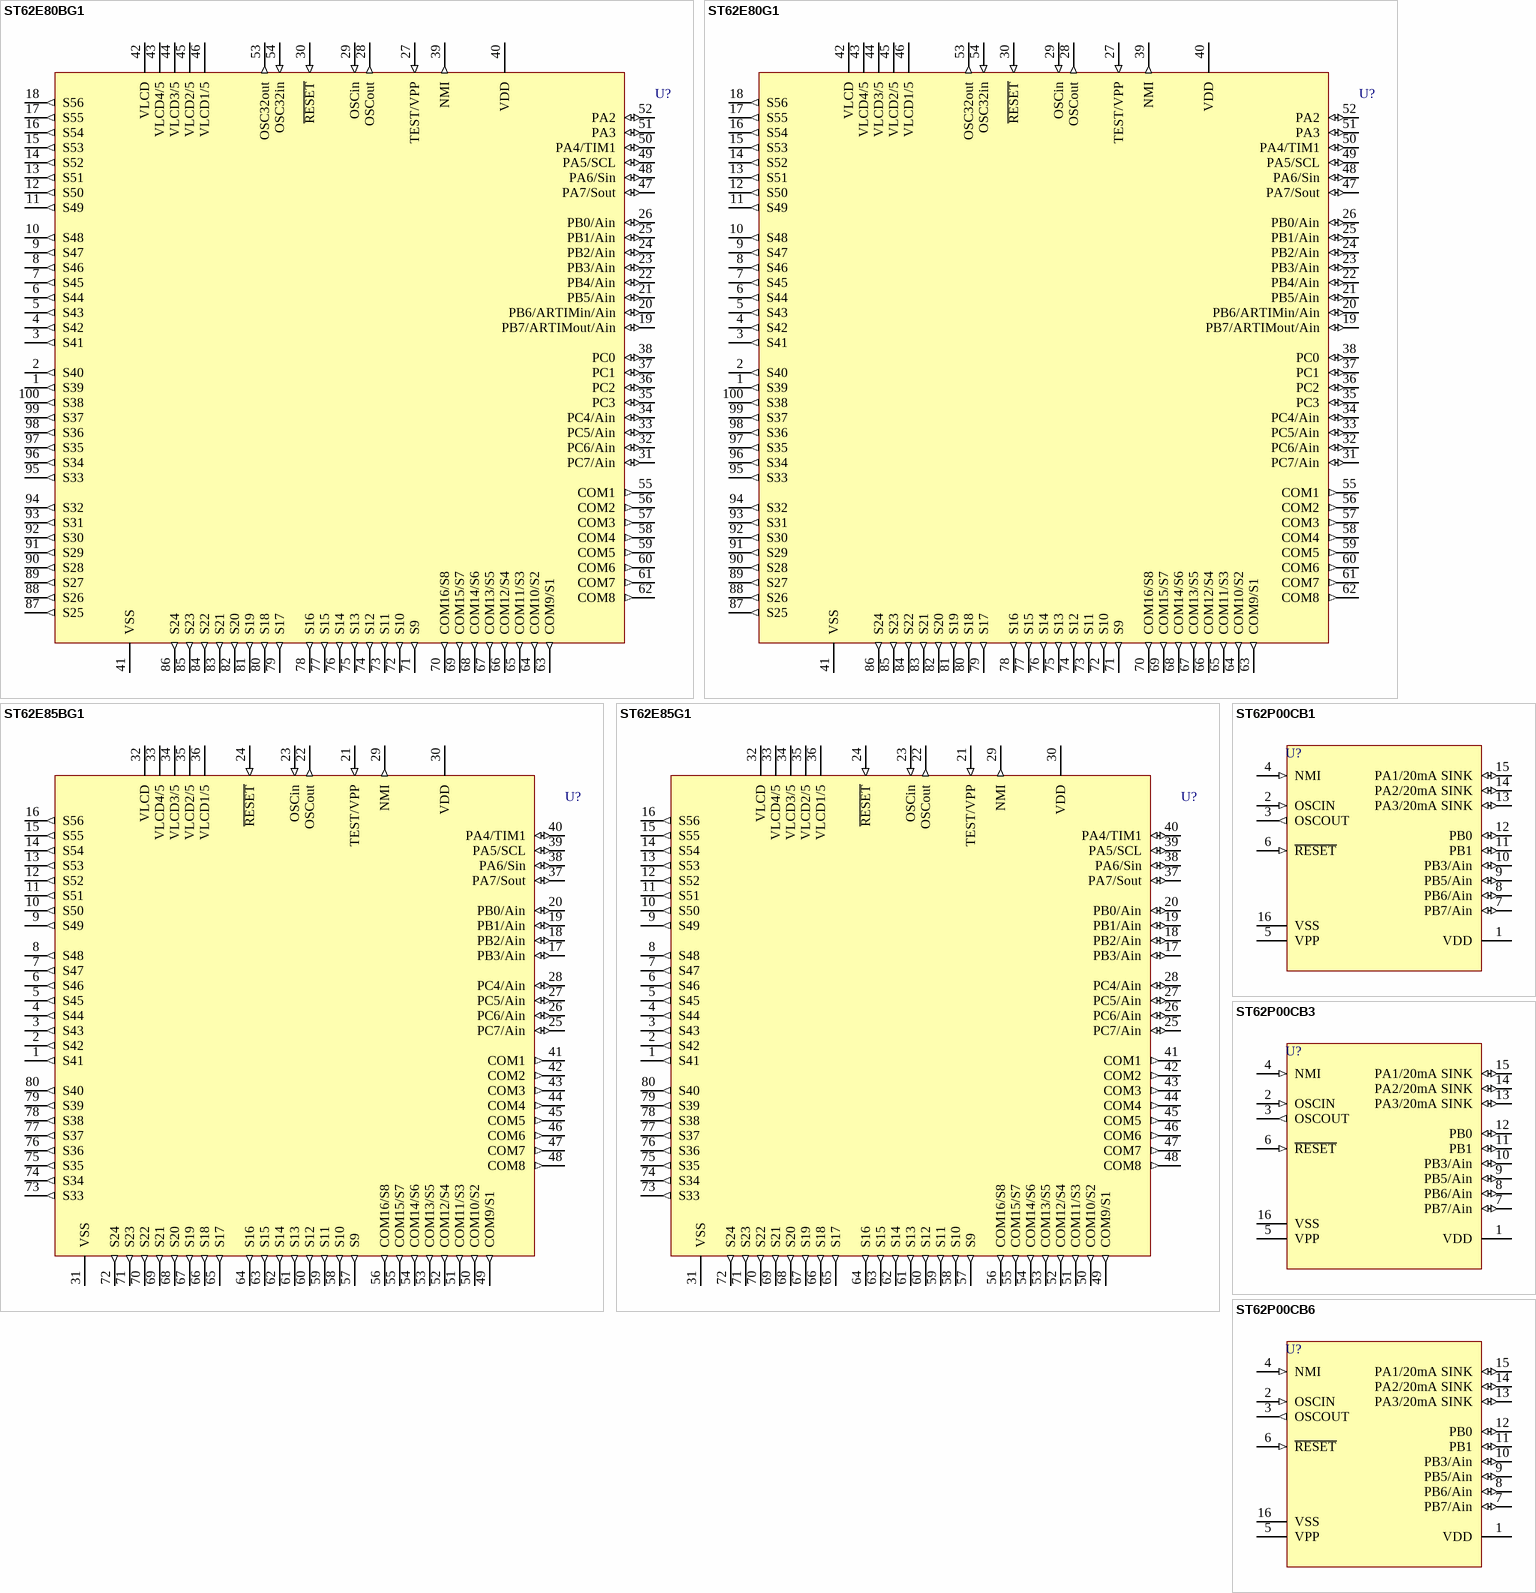
[diagram p5: symbols ST62E80BG1 to ST62P00CB6]

## ST62E80BG1
designator U?
8-Bit EPROM MCU with LCD Driver, EEPROM and A/D Converter, 100-Pin CQFP, Standard; Note: Pins 35-38, 47-49, 51 and 52 can also sink 20mA for direct LED or TRIAC drive.; Published: 26-May-2004; LatestRevisionDate: 13-Apr-2006; LatestRevisionNote: IPC-7351 Footprint Added.; DatasheetVersion: rev2.9, Jul-2001; PackageVersion: Jul-2001; PackageReference: CQFP100W; Publisher: Altium Limited; PackageDescription: 100-Pin Ceramic Quad Flat Pack Rectangular 0.65 mm Pitch; ComponentLink1Description: Manufacturer Link; ComponentLink1URL: http://www.st.com/; ComponentLink2Description: Datasheet; ComponentLink2URL: http://www.st.com/stonline/products/literature/ds/5517/st6280b.pdf
footprint CQFP100W_N (QFP, 100-Leads, Body 20x14mm, Pitch 0.65mm, IPC Medium Density)
footprint CQFP100W_L (QFP, 100-Leads, Body 20x14mm, Pitch 0.65mm, IPC High Density)
footprint CQFP100W_M (QFP, 100-Leads, Body 20x14mm, Pitch 0.65mm, IPC Low Density)
3D model ST62E80B-CQFP100 (100-Pin Ceramic Quad Flat Pack Rectangular 0.65 mm Pitch)
pins: 1 S39 (out), 2 S40 (out), 3 S41 (out), 4 S42 (out), 5 S43 (out), 6 S44 (out), 7 S45 (out), 8 S46 (out), 9 S47 (out), 10 S48 (out), 11 S49 (out), 12 S50 (out), 13 S51 (out), 14 S52 (out), 15 S53 (out), 16 S54 (out), 17 S55 (out), 18 S56 (out), 19 PB7/ARTIMout/Ain (io), 20 PB6/ARTIMin/Ain (io), 21 PB5/Ain (io), 22 PB4/Ain (io), 23 PB3/Ain (io), 24 PB2/Ain (io), 25 PB1/Ain (io), 26 PB0/Ain (io), 27 TEST/VPP (in), 28 OSCout (out), 29 OSCin (in), 30 ~{RESET} (in), 31 PC7/Ain (io), 32 PC6/Ain (io), 33 PC5/Ain (io), 34 PC4/Ain (io), 35 PC3 (io), 36 PC2 (io), 37 PC1 (io), 38 PC0 (io), 39 NMI (out), 40 VDD (power), 41 VSS (power), 42 VLCD (power), 43 VLCD4/5 (power), 44 VLCD3/5 (power), 45 VLCD2/5 (power), 46 VLCD1/5 (power), 47 PA7/Sout (io), 48 PA6/Sin (io), 49 PA5/SCL (io), 50 PA4/TIM1 (io), 51 PA3 (io), 52 PA2 (io), 53 OSC32out (out), 54 OSC32in (in), 55 COM1 (out), 56 COM2 (out), 57 COM3 (out), 58 COM4 (out), 59 COM5 (out), 60 COM6 (out), 61 COM7 (out), 62 COM8 (out), 63 COM9/S1 (out), 64 COM10/S2 (out), 65 COM11/S3 (out), 66 COM12/S4 (out), 67 COM13/S5 (out), 68 COM14/S6 (out), 69 COM15/S7 (out), 70 COM16/S8 (out), 71 S9 (out), 72 S10 (out), 73 S11 (out), 74 S12 (out), 75 S13 (out), 76 S14 (out), 77 S15 (out), 78 S16 (out), 79 S17 (out), 80 S18 (out), 81 S19 (out), 82 S20 (out), 83 S21 (out), 84 S22 (out), 85 S23 (out), 86 S24 (out), 87 S25 (out), 88 S26 (out), 89 S27 (out), 90 S28 (out), 91 S29 (out), 92 S30 (out), 93 S31 (out), 94 S32 (out), 95 S33 (out), 96 S34 (out), 97 S35 (out), 98 S36 (out), 99 S37 (out), 100 S38 (out)

## ST62E80G1
designator U?
8-Bit EPROM HCMOS MCU with Dot Matrix LCD Driver, EEPROM and A/D Converter; Published: 24-Aug-2001; LatestRevisionDate: 13-Apr-2006; LatestRevisionNote: IPC-7351 Footprint Added.; DatasheetVersion: Apr-1995; PackageVersion: Jul-2001; PackageReference: CQFP100W; Publisher: Altium Limited; PackageDescription: 100-Pin Ceramic Quad Flat Pack Rectangular 0.65 mm Pitch; ComponentLink1Description: Manufacturer Link; ComponentLink1URL: http://www.st.com/
footprint CQFP100W_N (QFP, 100-Leads, Body 20x14mm, Pitch 0.65mm, IPC Medium Density)
footprint CQFP100W_L (QFP, 100-Leads, Body 20x14mm, Pitch 0.65mm, IPC High Density)
footprint CQFP100W_M (QFP, 100-Leads, Body 20x14mm, Pitch 0.65mm, IPC Low Density)
3D model ST62E80-CQFP100 (100-Pin Ceramic Quad Flat Pack Rectangular 0.65 mm Pitch)
pins: 1 S39 (out), 2 S40 (out), 3 S41 (out), 4 S42 (out), 5 S43 (out), 6 S44 (out), 7 S45 (out), 8 S46 (out), 9 S47 (out), 10 S48 (out), 11 S49 (out), 12 S50 (out), 13 S51 (out), 14 S52 (out), 15 S53 (out), 16 S54 (out), 17 S55 (out), 18 S56 (out), 19 PB7/ARTIMout/Ain (io), 20 PB6/ARTIMin/Ain (io), 21 PB5/Ain (io), 22 PB4/Ain (io), 23 PB3/Ain (io), 24 PB2/Ain (io), 25 PB1/Ain (io), 26 PB0/Ain (io), 27 TEST/VPP (in), 28 OSCout (out), 29 OSCin (in), 30 ~{RESET} (in), 31 PC7/Ain (io), 32 PC6/Ain (io), 33 PC5/Ain (io), 34 PC4/Ain (io), 35 PC3 (io), 36 PC2 (io), 37 PC1 (io), 38 PC0 (io), 39 NMI (out), 40 VDD (power), 41 VSS (power), 42 VLCD (power), 43 VLCD4/5 (power), 44 VLCD3/5 (power), 45 VLCD2/5 (power), 46 VLCD1/5 (power), 47 PA7/Sout (io), 48 PA6/Sin (io), 49 PA5/SCL (io), 50 PA4/TIM1 (io), 51 PA3 (io), 52 PA2 (io), 53 OSC32out (out), 54 OSC32in (in), 55 COM1 (out), 56 COM2 (out), 57 COM3 (out), 58 COM4 (out), 59 COM5 (out), 60 COM6 (out), 61 COM7 (out), 62 COM8 (out), 63 COM9/S1 (out), 64 COM10/S2 (out), 65 COM11/S3 (out), 66 COM12/S4 (out), 67 COM13/S5 (out), 68 COM14/S6 (out), 69 COM15/S7 (out), 70 COM16/S8 (out), 71 S9 (out), 72 S10 (out), 73 S11 (out), 74 S12 (out), 75 S13 (out), 76 S14 (out), 77 S15 (out), 78 S16 (out), 79 S17 (out), 80 S18 (out), 81 S19 (out), 82 S20 (out), 83 S21 (out), 84 S22 (out), 85 S23 (out), 86 S24 (out), 87 S25 (out), 88 S26 (out), 89 S27 (out), 90 S28 (out), 91 S29 (out), 92 S30 (out), 93 S31 (out), 94 S32 (out), 95 S33 (out), 96 S34 (out), 97 S35 (out), 98 S36 (out), 99 S37 (out), 100 S38 (out)

## ST62E85BG1
designator U?
8-Bit EPROM MCU with LCD Driver, EEPROM and A/D Converter, 80-Pin CQFP, Standard; Note: Pins 37 to 40 can also sink 20mA for direct LED or TRIAC drive.; Published: 26-May-2004; LatestRevisionDate: 13-Apr-2006; LatestRevisionNote: IPC-7351 Footprint Added.; DatasheetVersion: rev2.6, Jul-2001; PackageVersion: rev3.3, Jan-2001; PackageReference: CQFP080; Publisher: Altium Limited; PackageDescription: 80-Pin Ceramic Quad Flat Pack Rectangular 0.8 mm Pitch; ComponentLink1Description: Manufacturer Link; ComponentLink1URL: http://www.st.com/; ComponentLink2Description: Datasheet; ComponentLink2URL: http://www.st.com/stonline/products/literature/ds/5695/st6285b.pdf
footprint CQFP080_N (QFP, 80-Leads, Body 20x14mm, Pitch 0.8mm, IPC Medium Density)
footprint CQFP080_L (QFP, 80-Leads, Body 20x14mm, Pitch 0.8mm, IPC High Density)
footprint CQFP080_M (QFP, 80-Leads, Body 20x14mm, Pitch 0.8mm, IPC Low Density)
3D model ST62E85-CQFP80 (80-Pin Ceramic Quad Flat Pack Rectangular 0.8 mm Pitch)
pins: 1 S41 (out), 2 S42 (out), 3 S43 (out), 4 S44 (out), 5 S45 (out), 6 S46 (out), 7 S47 (out), 8 S48 (out), 9 S49 (out), 10 S50 (out), 11 S51 (out), 12 S52 (out), 13 S53 (out), 14 S54 (out), 15 S55 (out), 16 S56 (out), 17 PB3/Ain (io), 18 PB2/Ain (io), 19 PB1/Ain (io), 20 PB0/Ain (io), 21 TEST/VPP (in), 22 OSCout (out), 23 OSCin (in), 24 ~{RESET} (in), 25 PC7/Ain (io), 26 PC6/Ain (io), 27 PC5/Ain (io), 28 PC4/Ain (io), 29 NMI (out), 30 VDD (power), 31 VSS (power), 32 VLCD (power), 33 VLCD4/5 (power), 34 VLCD3/5 (power), 35 VLCD2/5 (power), 36 VLCD1/5 (power), 37 PA7/Sout (io), 38 PA6/Sin (io), 39 PA5/SCL (io), 40 PA4/TIM1 (io), 41 COM1 (out), 42 COM2 (out), 43 COM3 (out), 44 COM4 (out), 45 COM5 (out), 46 COM6 (out), 47 COM7 (out), 48 COM8 (out), 49 COM9/S1 (out), 50 COM10/S2 (out), 51 COM11/S3 (out), 52 COM12/S4 (out), 53 COM13/S5 (out), 54 COM14/S6 (out), 55 COM15/S7 (out), 56 COM16/S8 (out), 57 S9 (out), 58 S10 (out), 59 S11 (out), 60 S12 (out), 61 S13 (out), 62 S14 (out), 63 S15 (out), 64 S16 (out), 65 S17 (out), 66 S18 (out), 67 S19 (out), 68 S20 (out), 69 S21 (out), 70 S22 (out), 71 S23 (out), 72 S24 (out), 73 S33 (out), 74 S34 (out), 75 S35 (out), 76 S36 (out), 77 S37 (out), 78 S38 (out), 79 S39 (out), 80 S40 (out)

## ST62E85G1
designator U?
8-Bit EPROM HCMOS MCU with Dot Matrix LCD Driver, EEPROM and A/D Converter; Published: 24-Aug-2001; LatestRevisionDate: 13-Apr-2006; LatestRevisionNote: IPC-7351 Footprint Added.; DatasheetVersion: Apr-1995; PackageVersion: rev3.3, Jan-2001; PackageReference: CQFP080; Publisher: Altium Limited; PackageDescription: 80-Pin Ceramic Quad Flat Pack Rectangular 0.8 mm Pitch; ComponentLink1Description: Manufacturer Link; ComponentLink1URL: http://www.st.com/
footprint CQFP080_N (QFP, 80-Leads, Body 20x14mm, Pitch 0.8mm, IPC Medium Density)
footprint CQFP080_L (QFP, 80-Leads, Body 20x14mm, Pitch 0.8mm, IPC High Density)
footprint CQFP080_M (QFP, 80-Leads, Body 20x14mm, Pitch 0.8mm, IPC Low Density)
3D model ST62E85-CQFP80 (80-Pin Ceramic Quad Flat Pack Rectangular 0.8 mm Pitch)
pins: 1 S41 (out), 2 S42 (out), 3 S43 (out), 4 S44 (out), 5 S45 (out), 6 S46 (out), 7 S47 (out), 8 S48 (out), 9 S49 (out), 10 S50 (out), 11 S51 (out), 12 S52 (out), 13 S53 (out), 14 S54 (out), 15 S55 (out), 16 S56 (out), 17 PB3/Ain (io), 18 PB2/Ain (io), 19 PB1/Ain (io), 20 PB0/Ain (io), 21 TEST/VPP (in), 22 OSCout (out), 23 OSCin (in), 24 ~{RESET} (in), 25 PC7/Ain (io), 26 PC6/Ain (io), 27 PC5/Ain (io), 28 PC4/Ain (io), 29 NMI (out), 30 VDD (power), 31 VSS (power), 32 VLCD (power), 33 VLCD4/5 (power), 34 VLCD3/5 (power), 35 VLCD2/5 (power), 36 VLCD1/5 (power), 37 PA7/Sout (io), 38 PA6/Sin (io), 39 PA5/SCL (io), 40 PA4/TIM1 (io), 41 COM1 (out), 42 COM2 (out), 43 COM3 (out), 44 COM4 (out), 45 COM5 (out), 46 COM6 (out), 47 COM7 (out), 48 COM8 (out), 49 COM9/S1 (out), 50 COM10/S2 (out), 51 COM11/S3 (out), 52 COM12/S4 (out), 53 COM13/S5 (out), 54 COM14/S6 (out), 55 COM15/S7 (out), 56 COM16/S8 (out), 57 S9 (out), 58 S10 (out), 59 S11 (out), 60 S12 (out), 61 S13 (out), 62 S14 (out), 63 S15 (out), 64 S16 (out), 65 S17 (out), 66 S18 (out), 67 S19 (out), 68 S20 (out), 69 S21 (out), 70 S22 (out), 71 S23 (out), 72 S24 (out), 73 S33 (out), 74 S34 (out), 75 S35 (out), 76 S36 (out), 77 S37 (out), 78 S38 (out), 79 S39 (out), 80 S40 (out)

## ST62P00CB1
designator U?
8-Bit FASTROM MCU with A/D Converter, Two Timers, Oscillator Safeguard and Safe Reset, 16-Pin PDIP, Standard; Published: 26-May-2004; LatestRevisionDate: 06-Jun-2005; LatestRevisionNote: Stylized 3D Model Added.; DatasheetVersion: rev3.3, Oct-2003; PackageVersion: Dec-2003; PackageReference: PDIP16; Publisher: Altium Limited; PackageDescription: DIP; 16 Leads; Row Spacing 7.62 mm; Pitch 2.54 mm; ComponentLink1Description: Manufacturer Link; ComponentLink1URL: http://www.st.com/; ComponentLink2Description: Datasheet; ComponentLink2URL: http://www.st.com/stonline/products/literature/ds/4563/st6200c.pdf
footprint PDIP16 (DIP; 16 Leads; Row Spacing 7.62 mm; Pitch 2.54 mm)
3D model PDIP16 (DIP; 16 Leads; Row Spacing 7.62 mm; Pitch 2.54 mm)
pins: 1 VDD (power), 2 OSCIN (in), 3 OSCOUT (out), 4 NMI (in), 5 VPP (power), 6 ~{RESET} (in), 7 PB7/Ain (io), 8 PB6/Ain (io), 9 PB5/Ain (io), 10 PB3/Ain (io), 11 PB1 (io), 12 PB0 (io), 13 PA3/20mA SINK (io), 14 PA2/20mA SINK (io), 15 PA1/20mA SINK (io), 16 VSS (power)

## ST62P00CB3
designator U?
8-Bit FASTROM MCU with A/D Converter, Two Timers, Oscillator Safeguard and Safe Reset, 16-Pin PDIP, Automotive; Published: 26-May-2004; LatestRevisionDate: 06-Jun-2005; LatestRevisionNote: Stylized 3D Model Added.; DatasheetVersion: rev3.3, Oct-2003; PackageVersion: Dec-2003; PackageReference: PDIP16; Publisher: Altium Limited; PackageDescription: DIP; 16 Leads; Row Spacing 7.62 mm; Pitch 2.54 mm; ComponentLink1Description: Manufacturer Link; ComponentLink1URL: http://www.st.com/; ComponentLink2Description: Datasheet; ComponentLink2URL: http://www.st.com/stonline/products/literature/ds/4563/st6200c.pdf
footprint PDIP16 (DIP; 16 Leads; Row Spacing 7.62 mm; Pitch 2.54 mm)
3D model PDIP16 (DIP; 16 Leads; Row Spacing 7.62 mm; Pitch 2.54 mm)
pins: 1 VDD (power), 2 OSCIN (in), 3 OSCOUT (out), 4 NMI (in), 5 VPP (power), 6 ~{RESET} (in), 7 PB7/Ain (io), 8 PB6/Ain (io), 9 PB5/Ain (io), 10 PB3/Ain (io), 11 PB1 (io), 12 PB0 (io), 13 PA3/20mA SINK (io), 14 PA2/20mA SINK (io), 15 PA1/20mA SINK (io), 16 VSS (power)

## ST62P00CB6
designator U?
8-Bit FASTROM MCU with A/D Converter, Two Timers, Oscillator Safeguard and Safe Reset, 16-Pin PDIP, Industrial; Published: 26-May-2004; LatestRevisionDate: 06-Jun-2005; LatestRevisionNote: Stylized 3D Model Added.; DatasheetVersion: rev3.3, Oct-2003; PackageVersion: Dec-2003; PackageReference: PDIP16; Publisher: Altium Limited; PackageDescription: DIP; 16 Leads; Row Spacing 7.62 mm; Pitch 2.54 mm; ComponentLink1Description: Manufacturer Link; ComponentLink1URL: http://www.st.com/; ComponentLink2Description: Datasheet; ComponentLink2URL: http://www.st.com/stonline/products/literature/ds/4563/st6200c.pdf
footprint PDIP16 (DIP; 16 Leads; Row Spacing 7.62 mm; Pitch 2.54 mm)
3D model PDIP16 (DIP; 16 Leads; Row Spacing 7.62 mm; Pitch 2.54 mm)
pins: 1 VDD (power), 2 OSCIN (in), 3 OSCOUT (out), 4 NMI (in), 5 VPP (power), 6 ~{RESET} (in), 7 PB7/Ain (io), 8 PB6/Ain (io), 9 PB5/Ain (io), 10 PB3/Ain (io), 11 PB1 (io), 12 PB0 (io), 13 PA3/20mA SINK (io), 14 PA2/20mA SINK (io), 15 PA1/20mA SINK (io), 16 VSS (power)

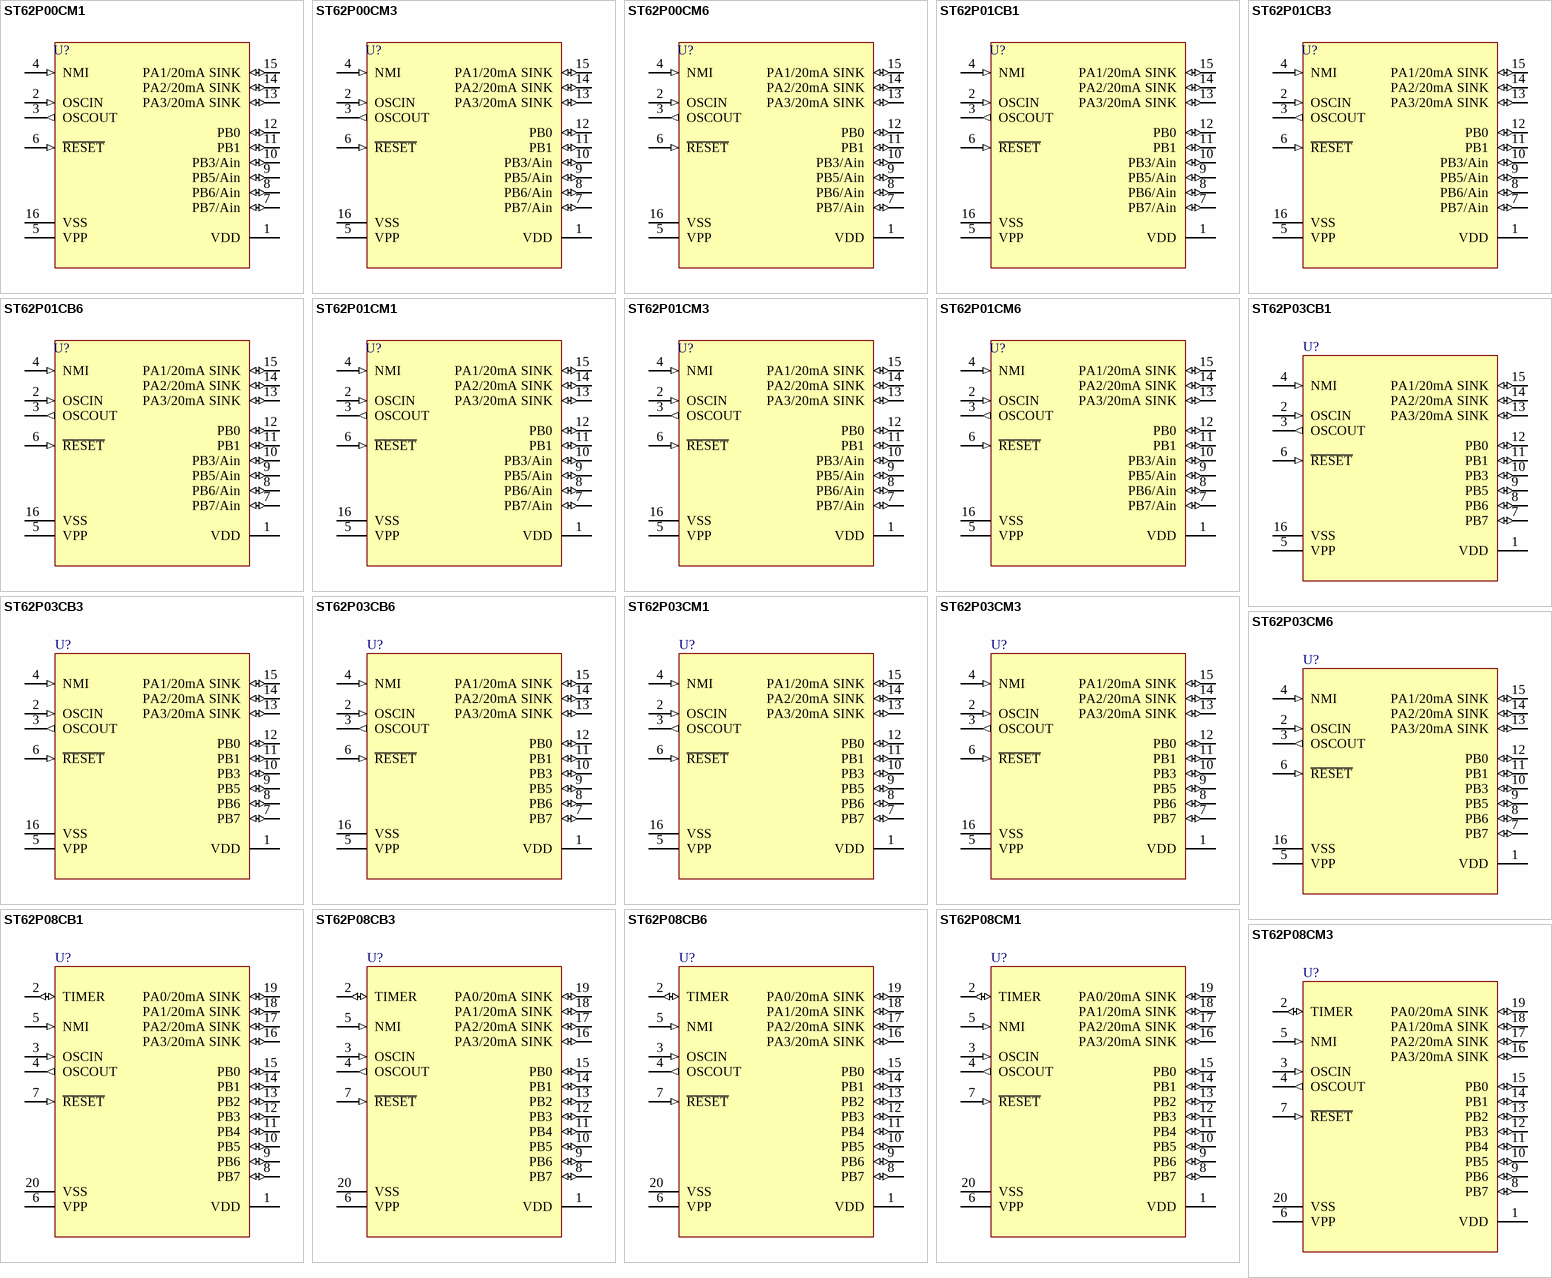
[diagram p6: symbols ST62P00CM1 to ST62P08CM3]

## ST62P00CM1
designator U?
8-Bit FASTROM MCU with A/D Converter, Two Timers, Oscillator Safeguard and Safe Reset, 16-Pin SOIC, Standard; Published: 26-May-2004; LatestRevisionDate: 13-Apr-2006; LatestRevisionNote: IPC-7351 Footprint Added.; DatasheetVersion: rev3.3, Oct-2003; PackageVersion: Apr-1998; PackageReference: SO16W; Publisher: Altium Limited; PackageDescription: 16-Pin Small Outline Integrated Circuit 1.27 mm Pitch; Code_JEDEC: MS-013-AA; Code_IPC: SOIC127P1030-16; ComponentLink1Description: Manufacturer Link; ComponentLink1URL: http://www.st.com/; ComponentLink2Description: Datasheet; ComponentLink2URL: http://www.st.com/stonline/products/literature/ds/4563/st6200c.pdf
footprint SO16W_N (SOIC, 16-Leads, Body 10.3x7.5mm, Pitch 1.27mm, IPC Medium Density)
footprint SO16W_L (SOIC, 16-Leads, Body 10.3x7.5mm, Pitch 1.27mm, IPC High Density)
footprint SO16W_M (SOIC, 16-Leads, Body 10.3x7.5mm, Pitch 1.27mm, IPC Low Density)
3D model SO16W (16-Pin Small Outline Integrated Circuit 1.27 mm Pitch)
pins: 1 VDD (power), 2 OSCIN (in), 3 OSCOUT (out), 4 NMI (in), 5 VPP (power), 6 ~{RESET} (in), 7 PB7/Ain (io), 8 PB6/Ain (io), 9 PB5/Ain (io), 10 PB3/Ain (io), 11 PB1 (io), 12 PB0 (io), 13 PA3/20mA SINK (io), 14 PA2/20mA SINK (io), 15 PA1/20mA SINK (io), 16 VSS (power)

## ST62P00CM3
designator U?
8-Bit FASTROM MCU with A/D Converter, Two Timers, Oscillator Safeguard and Safe Reset, 16-Pin SOIC, Automotive; Published: 26-May-2004; LatestRevisionDate: 13-Apr-2006; LatestRevisionNote: IPC-7351 Footprint Added.; DatasheetVersion: rev3.3, Oct-2003; PackageVersion: Apr-1998; PackageReference: SO16W; Publisher: Altium Limited; PackageDescription: 16-Pin Small Outline Integrated Circuit 1.27 mm Pitch; Code_JEDEC: MS-013-AA; Code_IPC: SOIC127P1030-16; ComponentLink1Description: Manufacturer Link; ComponentLink1URL: http://www.st.com/; ComponentLink2Description: Datasheet; ComponentLink2URL: http://www.st.com/stonline/products/literature/ds/4563/st6200c.pdf
footprint SO16W_N (SOIC, 16-Leads, Body 10.3x7.5mm, Pitch 1.27mm, IPC Medium Density)
footprint SO16W_L (SOIC, 16-Leads, Body 10.3x7.5mm, Pitch 1.27mm, IPC High Density)
footprint SO16W_M (SOIC, 16-Leads, Body 10.3x7.5mm, Pitch 1.27mm, IPC Low Density)
3D model SO16W (16-Pin Small Outline Integrated Circuit 1.27 mm Pitch)
pins: 1 VDD (power), 2 OSCIN (in), 3 OSCOUT (out), 4 NMI (in), 5 VPP (power), 6 ~{RESET} (in), 7 PB7/Ain (io), 8 PB6/Ain (io), 9 PB5/Ain (io), 10 PB3/Ain (io), 11 PB1 (io), 12 PB0 (io), 13 PA3/20mA SINK (io), 14 PA2/20mA SINK (io), 15 PA1/20mA SINK (io), 16 VSS (power)

## ST62P00CM6
designator U?
8-Bit FASTROM MCU with A/D Converter, Two Timers, Oscillator Safeguard and Safe Reset, 16-Pin SOIC, Industrial; Published: 26-May-2004; LatestRevisionDate: 13-Apr-2006; LatestRevisionNote: IPC-7351 Footprint Added.; DatasheetVersion: rev3.3, Oct-2003; PackageVersion: Apr-1998; PackageReference: SO16W; Publisher: Altium Limited; PackageDescription: 16-Pin Small Outline Integrated Circuit 1.27 mm Pitch; Code_JEDEC: MS-013-AA; Code_IPC: SOIC127P1030-16; ComponentLink1Description: Manufacturer Link; ComponentLink1URL: http://www.st.com/; ComponentLink2Description: Datasheet; ComponentLink2URL: http://www.st.com/stonline/products/literature/ds/4563/st6200c.pdf
footprint SO16W_N (SOIC, 16-Leads, Body 10.3x7.5mm, Pitch 1.27mm, IPC Medium Density)
footprint SO16W_L (SOIC, 16-Leads, Body 10.3x7.5mm, Pitch 1.27mm, IPC High Density)
footprint SO16W_M (SOIC, 16-Leads, Body 10.3x7.5mm, Pitch 1.27mm, IPC Low Density)
3D model SO16W (16-Pin Small Outline Integrated Circuit 1.27 mm Pitch)
pins: 1 VDD (power), 2 OSCIN (in), 3 OSCOUT (out), 4 NMI (in), 5 VPP (power), 6 ~{RESET} (in), 7 PB7/Ain (io), 8 PB6/Ain (io), 9 PB5/Ain (io), 10 PB3/Ain (io), 11 PB1 (io), 12 PB0 (io), 13 PA3/20mA SINK (io), 14 PA2/20mA SINK (io), 15 PA1/20mA SINK (io), 16 VSS (power)

## ST62P01CB1
designator U?
8-Bit FASTROM MCU with A/D Converter, Two Timers, Oscillator Safeguard and Safe Reset, 16-Pin PDIP, Standard; Published: 26-May-2004; LatestRevisionDate: 06-Jun-2005; LatestRevisionNote: Stylized 3D Model Added.; DatasheetVersion: rev3.3, Oct-2003; PackageVersion: Dec-2003; PackageReference: PDIP16; Publisher: Altium Limited; PackageDescription: DIP; 16 Leads; Row Spacing 7.62 mm; Pitch 2.54 mm; ComponentLink1Description: Manufacturer Link; ComponentLink1URL: http://www.st.com/; ComponentLink2Description: Datasheet; ComponentLink2URL: http://www.st.com/stonline/products/literature/ds/4563/st6201c.pdf
footprint PDIP16 (DIP; 16 Leads; Row Spacing 7.62 mm; Pitch 2.54 mm)
3D model PDIP16 (DIP; 16 Leads; Row Spacing 7.62 mm; Pitch 2.54 mm)
pins: 1 VDD (power), 2 OSCIN (in), 3 OSCOUT (out), 4 NMI (in), 5 VPP (power), 6 ~{RESET} (in), 7 PB7/Ain (io), 8 PB6/Ain (io), 9 PB5/Ain (io), 10 PB3/Ain (io), 11 PB1 (io), 12 PB0 (io), 13 PA3/20mA SINK (io), 14 PA2/20mA SINK (io), 15 PA1/20mA SINK (io), 16 VSS (power)

## ST62P01CB3
designator U?
8-Bit FASTROM MCU with A/D Converter, Two Timers, Oscillator Safeguard and Safe Reset, 16-Pin PDIP, Automotive; Published: 26-May-2004; LatestRevisionDate: 06-Jun-2005; LatestRevisionNote: Stylized 3D Model Added.; DatasheetVersion: rev3.3, Oct-2003; PackageVersion: Dec-2003; PackageReference: PDIP16; Publisher: Altium Limited; PackageDescription: DIP; 16 Leads; Row Spacing 7.62 mm; Pitch 2.54 mm; ComponentLink1Description: Manufacturer Link; ComponentLink1URL: http://www.st.com/; ComponentLink2Description: Datasheet; ComponentLink2URL: http://www.st.com/stonline/products/literature/ds/4563/st6201c.pdf
footprint PDIP16 (DIP; 16 Leads; Row Spacing 7.62 mm; Pitch 2.54 mm)
3D model PDIP16 (DIP; 16 Leads; Row Spacing 7.62 mm; Pitch 2.54 mm)
pins: 1 VDD (power), 2 OSCIN (in), 3 OSCOUT (out), 4 NMI (in), 5 VPP (power), 6 ~{RESET} (in), 7 PB7/Ain (io), 8 PB6/Ain (io), 9 PB5/Ain (io), 10 PB3/Ain (io), 11 PB1 (io), 12 PB0 (io), 13 PA3/20mA SINK (io), 14 PA2/20mA SINK (io), 15 PA1/20mA SINK (io), 16 VSS (power)